# Altium schematic symbol library ICs.SchLib: 214 symbols (part 1 of 2)
Pins are listed as number, name and electrical type; pins without a type are passive.

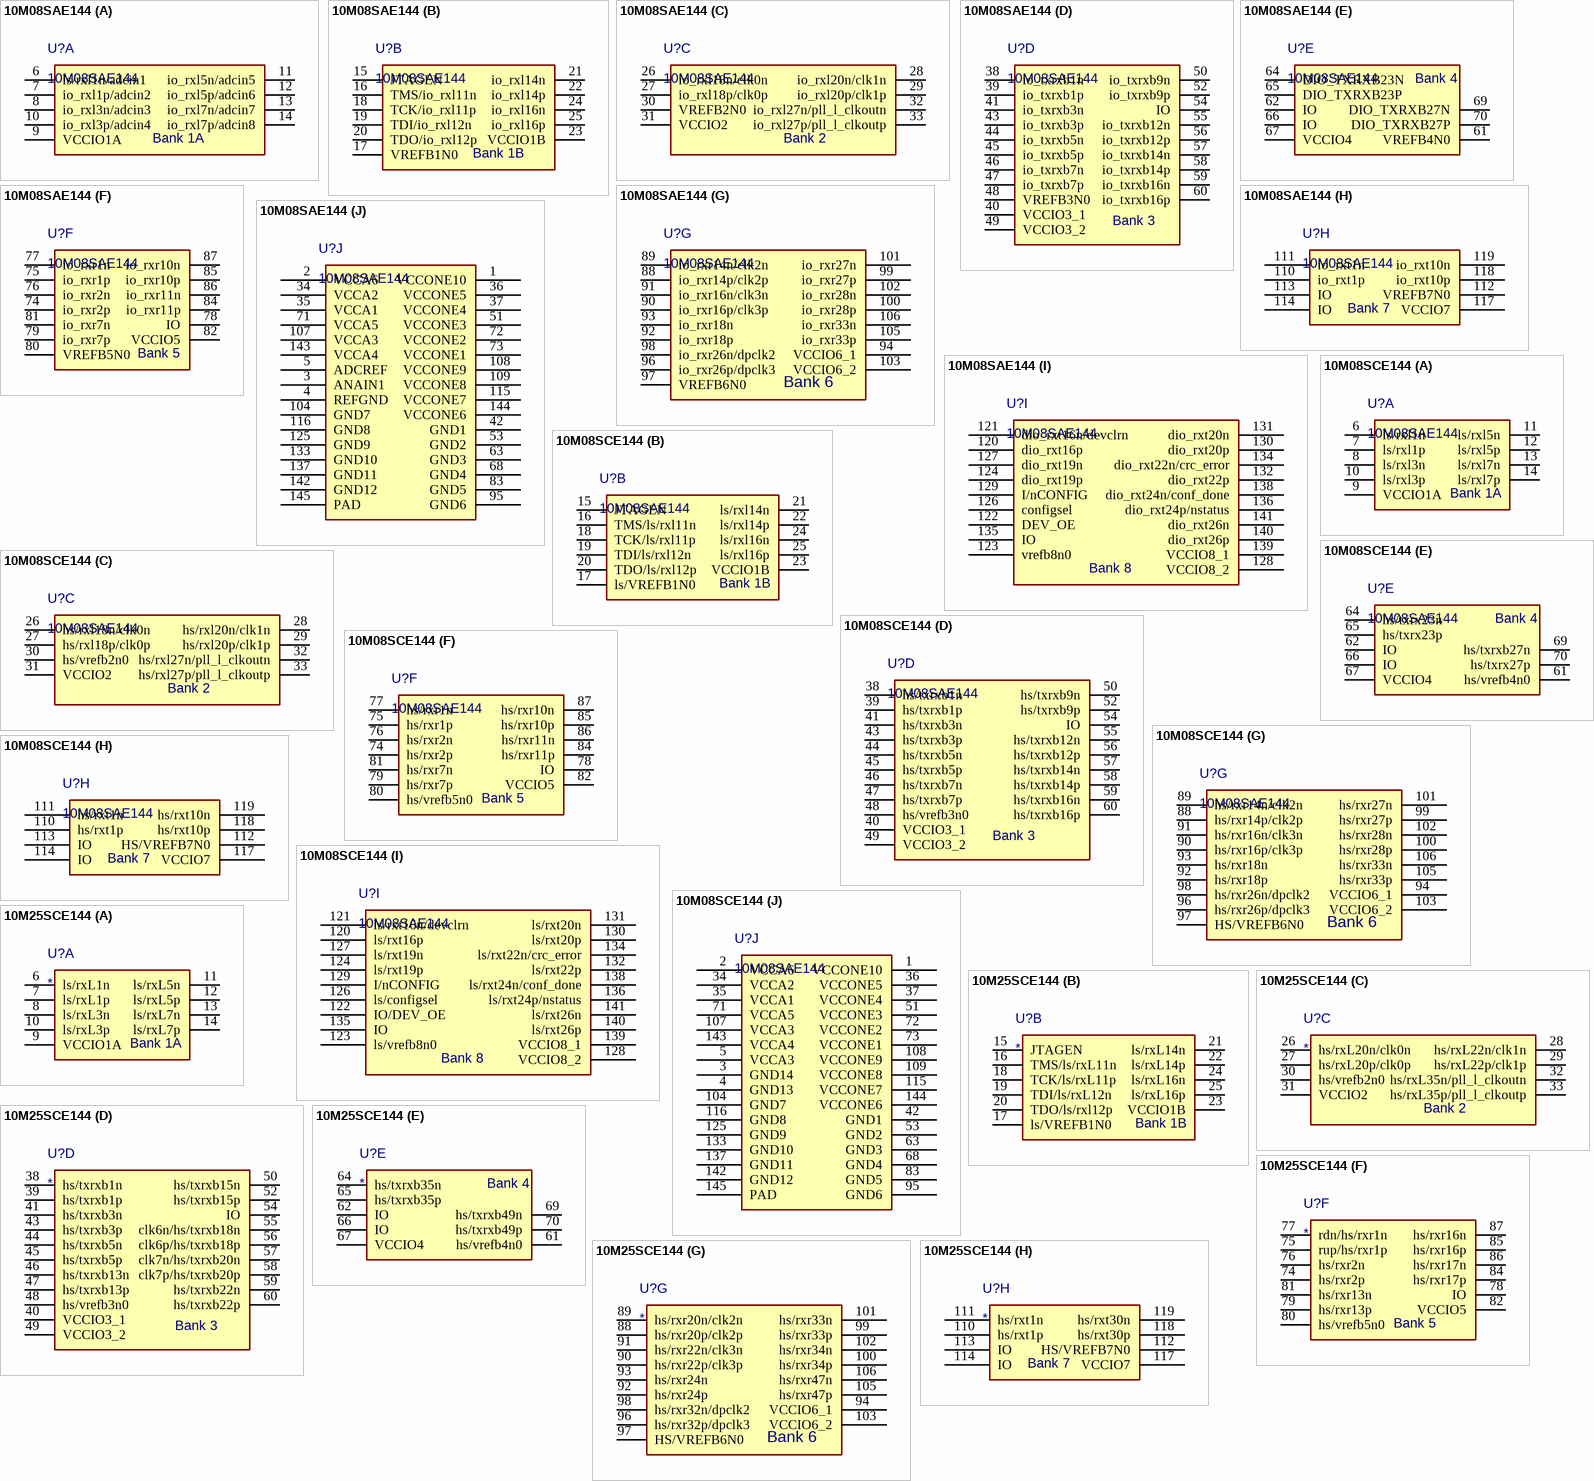
[diagram p0: symbols 10M08SAE144 to 10M25SCE144]

## 10M08SAE144
designator U?
Value: 10M08SAE144
part A pins: 6 ls/rxl1n/adcin1, 7 io_rxl1p/adcin2, 8 io_rxl3n/adcin3, 9 VCCIO1A, 10 io_rxl3p/adcin4, 11 io_rxl5n/adcin5, 12 io_rxl5p/adcin6, 13 io_rxl7n/adcin7, 14 io_rxl7p/adcin8
part B pins: 15 JTAGEN, 16 TMS/io_rxl11n, 17 VREFB1N0, 18 TCK/io_rxl11p, 19 TDI/io_rxl12n, 20 TDO/io_rxl12p, 21 io_rxl14n, 22 io_rxl14p, 23 VCCIO1B, 24 io_rxl16n, 25 io_rxl16p
part C pins: 26 io_rxl18n/clk0n, 27 io_rxl18p/clk0p, 28 io_rxl20n/clk1n, 29 io_rxl20p/clk1p, 30 VREFB2N0, 31 VCCIO2, 32 io_rxl27n/pll_l_clkoutn, 33 io_rxl27p/pll_l_clkoutp
part D pins: 38 io_txrxb1n, 39 io_txrxb1p, 40 VCCIO3_1, 41 io_txrxb3n, 43 io_txrxb3p, 44 io_txrxb5n, 45 io_txrxb5p, 46 io_txrxb7n, 47 io_txrxb7p, 48 VREFB3N0, 49 VCCIO3_2, 50 io_txrxb9n, 52 io_txrxb9p, 54 IO, 55 io_txrxb12n, 56 io_txrxb12p, 57 io_txrxb14n, 58 io_txrxb14p, 59 io_txrxb16n, 60 io_txrxb16p
part E pins: 61 VREFB4N0, 62 IO, 64 DIO_TXRXB23N, 65 DIO_TXRXB23P, 66 IO, 67 VCCIO4, 69 DIO_TXRXB27N, 70 DIO_TXRXB27P
part F pins: 74 io_rxr2p, 75 io_rxr1p, 76 io_rxr2n, 77 io_rxr1n, 78 IO, 79 io_rxr7p, 80 VREFB5N0, 81 io_rxr7n, 82 VCCIO5, 84 io_rxr11p, 85 io_rxr10p, 86 io_rxr11n, 87 io_rxr10n
part G pins: 88 io_rxr14p/clk2p, 89 io_rxr14n/clk2n, 90 io_rxr16p/clk3p, 91 io_rxr16n/clk3n, 92 io_rxr18p, 93 io_rxr18n, 94 VCCIO6_1, 96 io_rxr26p/dpclk3, 97 VREFB6N0, 98 io_rxr26n/dpclk2, 99 io_rxr27p, 100 io_rxr28p, 101 io_rxr27n, 102 io_rxr28n, 103 VCCIO6_2, 105 io_rxr33p, 106 io_rxr33n
part H pins: 110 io_rxt1p, 111 io_rxt1n, 112 VREFB7N0, 113 IO, 114 IO, 117 VCCIO7, 118 io_rxt10p, 119 io_rxt10n
part I pins: 120 dio_rxt16p, 121 dio_rxt16n/devclrn, 122 DEV_OE, 123 vrefb8n0, 124 dio_rxt19p, 126 configsel, 127 dio_rxt19n, 128 VCCIO8_2, 129 I/nCONFIG, 130 dio_rxt20p, 131 dio_rxt20n, 132 dio_rxt22p, 134 dio_rxt22n/crc_error, 135 IO, 136 dio_rxt24p/nstatus, 138 dio_rxt24n/conf_done, 139 VCCIO8_1, 140 dio_rxt26p, 141 dio_rxt26n
part J pins: 1 VCCONE10, 2 VCCA6, 3 ANAIN1, 4 REFGND, 5 ADCREF, 34 VCCA2, 35 VCCA1, 36 VCCONE5, 37 VCCONE4, 42 GND1, 51 VCCONE3, 53 GND2, 63 GND3, 68 GND4, 71 VCCA5, 72 VCCONE2, 73 VCCONE1, 83 GND5, 95 GND6, 104 GND7, 107 VCCA3, 108 VCCONE9, 109 VCCONE8, 115 VCCONE7, 116 GND8, 125 GND9, 133 GND10, 137 GND11, 142 GND12, 143 VCCA4, 144 VCCONE6, 145 PAD
part A text: Bank 1A
part B text: Bank 1B
part C text: Bank 2
part D text: Bank 3
part E text: Bank 4
part F text: Bank 5
part G text: Bank 6
part H text: Bank 7
part I text: Bank 8

## 10M08SCE144
designator U?, comment 10M08SAE144
Value: 10M08SAE144
part A pins: 6 ls/rxl1n, 7 ls/rxl1p, 8 ls/rxl3n, 9 VCCIO1A, 10 ls/rxl3p, 11 ls/rxl5n, 12 ls/rxl5p, 13 ls/rxl7n, 14 ls/rxl7p
part B pins: 15 JTAGEN, 16 TMS/ls/rxl11n, 17 ls/VREFB1N0, 18 TCK/ls/rxl11p, 19 TDI/ls/rxl12n, 20 TDO/ls/rxl12p, 21 ls/rxl14n, 22 ls/rxl14p, 23 VCCIO1B, 24 ls/rxl16n, 25 ls/rxl16p
part C pins: 26 hs/rxl18n/clk0n, 27 hs/rxl18p/clk0p, 28 hs/rxl20n/clk1n, 29 hs/rxl20p/clk1p, 30 hs/vrefb2n0, 31 VCCIO2, 32 hs/rxl27n/pll_l_clkoutn, 33 hs/rxl27p/pll_l_clkoutp
part D pins: 38 hs/txrxb1n, 39 hs/txrxb1p, 40 VCCIO3_1, 41 hs/txrxb3n, 43 hs/txrxb3p, 44 hs/txrxb5n, 45 hs/txrxb5p, 46 hs/txrxb7n, 47 hs/txrxb7p, 48 hs/vrefb3n0, 49 VCCIO3_2, 50 hs/txrxb9n, 52 hs/txrxb9p, 54 IO, 55 hs/txrxb12n, 56 hs/txrxb12p, 57 hs/txrxb14n, 58 hs/txrxb14p, 59 hs/txrxb16n, 60 hs/txrxb16p
part E pins: 61 hs/vrefb4n0, 62 IO, 64 hs/txrx23n, 65 hs/txrx23p, 66 IO, 67 VCCIO4, 69 hs/txrxb27n, 70 hs/txrx27p
part F pins: 74 hs/rxr2p, 75 hs/rxr1p, 76 hs/rxr2n, 77 hs/rxr1n, 78 IO, 79 hs/rxr7p, 80 hs/vrefb5n0, 81 hs/rxr7n, 82 VCCIO5, 84 hs/rxr11p, 85 hs/rxr10p, 86 hs/rxr11n, 87 hs/rxr10n
part G pins: 88 hs/rxr14p/clk2p, 89 hs/rxr14n/clk2n, 90 hs/rxr16p/clk3p, 91 hs/rxr16n/clk3n, 92 hs/rxr18p, 93 hs/rxr18n, 94 VCCIO6_1, 96 hs/rxr26p/dpclk3, 97 HS/VREFB6N0, 98 hs/rxr26n/dpclk2, 99 hs/rxr27p, 100 hs/rxr28p, 101 hs/rxr27n, 102 hs/rxr28n, 103 VCCIO6_2, 105 hs/rxr33p, 106 hs/rxr33n
part H pins: 110 hs/rxt1p, 111 hs/rxt1n, 112 HS/VREFB7N0, 113 IO, 114 IO, 117 VCCIO7, 118 hs/rxt10p, 119 hs/rxt10n
part I pins: 120 ls/rxt16p, 121 ls/rxt16n/devclrn, 122 IO/DEV_OE, 123 ls/vrefb8n0, 124 ls/rxt19p, 126 ls/configsel, 127 ls/rxt19n, 128 VCCIO8_2, 129 I/nCONFIG, 130 ls/rxt20p, 131 ls/rxt20n, 132 ls/rxt22p, 134 ls/rxt22n/crc_error, 135 IO, 136 ls/rxt24p/nstatus, 138 ls/rxt24n/conf_done, 139 VCCIO8_1, 140 ls/rxt26p, 141 ls/rxt26n
part J pins: 1 VCCONE10, 2 VCCA6, 3 GND14, 4 GND13, 5 VCCA3, 34 VCCA2, 35 VCCA1, 36 VCCONE5, 37 VCCONE4, 42 GND1, 51 VCCONE3, 53 GND2, 63 GND3, 68 GND4, 71 VCCA5, 72 VCCONE2, 73 VCCONE1, 83 GND5, 95 GND6, 104 GND7, 107 VCCA3, 108 VCCONE9, 109 VCCONE8, 115 VCCONE7, 116 GND8, 125 GND9, 133 GND10, 137 GND11, 142 GND12, 143 VCCA4, 144 VCCONE6, 145 PAD
part A text: Bank 1A
part B text: Bank 1B
part C text: Bank 2
part D text: Bank 3
part E text: Bank 4
part F text: Bank 5
part G text: Bank 6
part H text: Bank 7
part I text: Bank 8

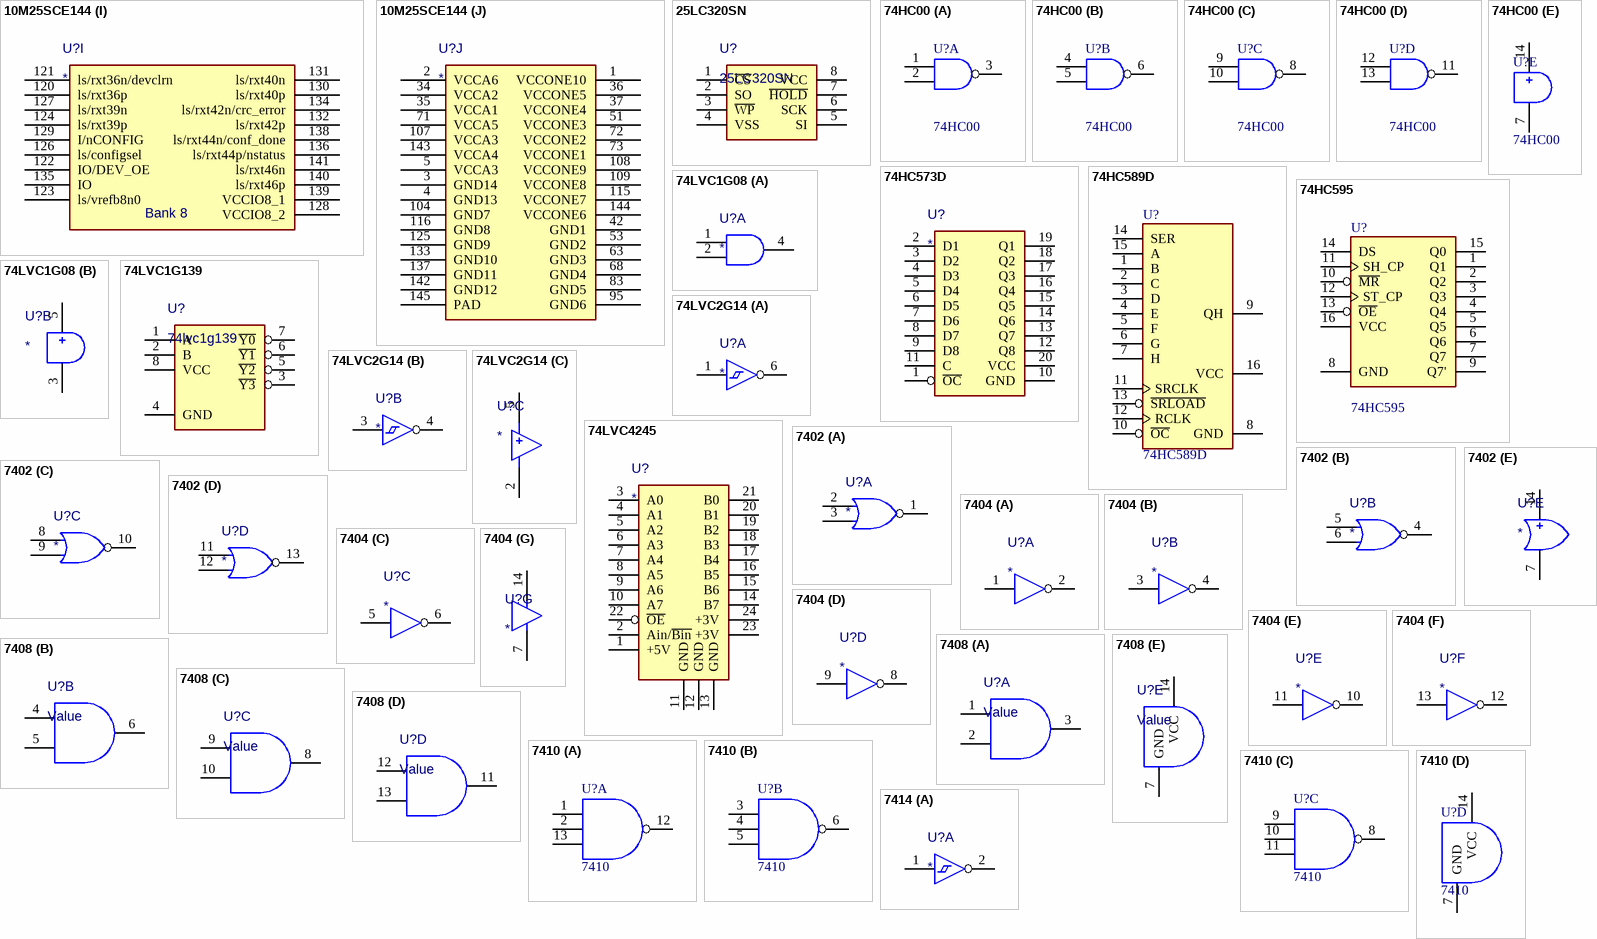
[diagram p1: symbols 10M25SCE144 to 7414]

## 10M25SCE144
designator U?
Value: *
part A pins: 6 ls/rxL1n, 7 ls/rxL1p, 8 ls/rxL3n, 9 VCCIO1A, 10 ls/rxL3p, 11 ls/rxL5n, 12 ls/rxL5p, 13 ls/rxL7n, 14 ls/rxL7p
part B pins: 15 JTAGEN, 16 TMS/ls/rxL11n, 17 ls/VREFB1N0, 18 TCK/ls/rxL11p, 19 TDI/ls/rxL12n, 20 TDO/ls/rxl12p, 21 ls/rxL14n, 22 ls/rxL14p, 23 VCCIO1B, 24 ls/rxL16n, 25 ls/rxL16p
part C pins: 26 hs/rxL20n/clk0n, 27 hs/rxL20p/clk0p, 28 hs/rxL22n/clk1n, 29 hs/rxL22p/clk1p, 30 hs/vrefb2n0, 31 VCCIO2, 32 hs/rxL35n/pll_l_clkoutn, 33 hs/rxL35p/pll_l_clkoutp
part D pins: 38 hs/txrxb1n, 39 hs/txrxb1p, 40 VCCIO3_1, 41 hs/txrxb3n, 43 hs/txrxb3p, 44 hs/txrxb5n, 45 hs/txrxb5p, 46 hs/txrxb13n, 47 hs/txrxb13p, 48 hs/vrefb3n0, 49 VCCIO3_2, 50 hs/txrxb15n, 52 hs/txrxb15p, 54 IO, 55 clk6n/hs/txrxb18n, 56 clk6p/hs/txrxb18p, 57 clk7n/hs/txrxb20n, 58 clk7p/hs/txrxb20p, 59 hs/txrxb22n, 60 hs/txrxb22p
part E pins: 61 hs/vrefb4n0, 62 IO, 64 hs/txrxb35n, 65 hs/txrxb35p, 66 IO, 67 VCCIO4, 69 hs/txrxb49n, 70 hs/txrxb49p
part F pins: 74 hs/rxr2p, 75 rup/hs/rxr1p, 76 hs/rxr2n, 77 rdn/hs/rxr1n, 78 IO, 79 hs/rxr13p, 80 hs/vrefb5n0, 81 hs/rxr13n, 82 VCCIO5, 84 hs/rxr17p, 85 hs/rxr16p, 86 hs/rxr17n, 87 hs/rxr16n
part G pins: 88 hs/rxr20p/clk2p, 89 hs/rxr20n/clk2n, 90 hs/rxr22p/clk3p, 91 hs/rxr22n/clk3n, 92 hs/rxr24p, 93 hs/rxr24n, 94 VCCIO6_1, 96 hs/rxr32p/dpclk3, 97 HS/VREFB6N0, 98 hs/rxr32n/dpclk2, 99 hs/rxr33p, 100 hs/rxr34p, 101 hs/rxr33n, 102 hs/rxr34n, 103 VCCIO6_2, 105 hs/rxr47p, 106 hs/rxr47n
part H pins: 110 hs/rxt1p, 111 hs/rxt1n, 112 HS/VREFB7N0, 113 IO, 114 IO, 117 VCCIO7, 118 hs/rxt30p, 119 hs/rxt30n
part I pins: 120 ls/rxt36p, 121 ls/rxt36n/devclrn, 122 IO/DEV_OE, 123 ls/vrefb8n0, 124 ls/rxt39p, 126 ls/configsel, 127 ls/rxt39n, 128 VCCIO8_2, 129 I/nCONFIG, 130 ls/rxt40p, 131 ls/rxt40n, 132 ls/rxt42p, 134 ls/rxt42n/crc_error, 135 IO, 136 ls/rxt44p/nstatus, 138 ls/rxt44n/conf_done, 139 VCCIO8_1, 140 ls/rxt46p, 141 ls/rxt46n
part J pins: 1 VCCONE10, 2 VCCA6, 3 GND14, 4 GND13, 5 VCCA3, 34 VCCA2, 35 VCCA1, 36 VCCONE5, 37 VCCONE4, 42 GND1, 51 VCCONE3, 53 GND2, 63 GND3, 68 GND4, 71 VCCA5, 72 VCCONE2, 73 VCCONE1, 83 GND5, 95 GND6, 104 GND7, 107 VCCA3, 108 VCCONE9, 109 VCCONE8, 115 VCCONE7, 116 GND8, 125 GND9, 133 GND10, 137 GND11, 142 GND12, 143 VCCA4, 144 VCCONE6, 145 PAD
part A text: Bank 1A
part B text: Bank 1B
part C text: Bank 2
part D text: Bank 3
part E text: Bank 4
part F text: Bank 5
part G text: Bank 6
part H text: Bank 7
part I text: Bank 8

## 25LC320SN
designator U?
Value: 25LC320SN
pins: 1 ~{CS}, 2 SO, 3 ~{WP}, 4 VSS, 5 SI, 6 SCK, 7 ~{HOLD}, 8 VCC

## 74HC00
designator U?
Value: 74HC00
part A pins: 1 I0, 2 I1, 3 O
part B pins: 4 I0, 5 I1, 6 O
part C pins: 8 O, 9 I0, 10 I1
part D pins: 11 O, 12 I0, 13 I1
part E pins: 7 GND, 14 VCC

## 74HC573D
designator U?
Value: *
pins: 1 ~{OC}, 2 D1, 3 D2, 4 D3, 5 D4, 6 D5, 7 D6, 8 D7, 9 D8, 10 GND, 11 C, 12 Q8 (hiz), 13 Q7 (hiz), 14 Q6 (hiz), 15 Q5 (hiz), 16 Q4 (hiz), 17 Q3 (hiz), 18 Q2 (hiz), 19 Q1 (hiz), 20 VCC

## 74HC589D
designator U?
Value: 74HC589D
footprint 16SOIC150
pins: 1 B, 2 C, 3 D, 4 E, 5 F, 6 G, 7 H, 8 GND, 9 QH, 10 ~{OC}, 11 SRCLK, 12 RCLK, 13 ~{SRLOAD}, 14 SER, 15 A, 16 VCC

## 74HC595
designator U?
Value: 74HC595
pins: 1 Q1 (hiz), 2 Q2 (hiz), 3 Q3 (hiz), 4 Q4 (hiz), 5 Q5 (hiz), 6 Q6 (hiz), 7 Q7 (hiz), 8 GND, 9 Q7', 10 ~{MR}, 11 SH_CP, 12 ST_CP, 13 ~{OE}, 14 DS, 15 Q0 (hiz), 16 VCC

## 74LVC1G08
designator U?
Value: *
part A pins: 1 I0, 2 I1, 4 O
part B pins: 3 GND, 5 VCC

## 74LVC1G139
designator U?, comment 74lvc1g139
Value: 74lvc1g139
pins: 1 A, 2 B, 3 ~{Y3}, 4 GND, 5 ~{Y2}, 6 ~{Y1}, 7 ~{Y0}, 8 VCC

## 74LVC2G14
designator U?
Value: *
part A pins: 1 I, 6 O
part B pins: 3 I, 4 O
part C pins: 2 GND, 5 VCC

## 74LVC4245
designator U?
Value: *
pins: 1 +5V (power), 2 Ain/~{Bin}, 3 A0, 4 A1, 5 A2, 6 A3, 7 A4, 8 A5, 9 A6, 10 A7, 11 GND (power), 12 GND (power), 13 GND (power), 14 B7, 15 B6, 16 B5, 17 B4, 18 B3, 19 B2, 20 B1, 21 B0, 22 ~{OE}, 23 +3V, 24 +3V

## 7402
designator U?
Value: *
part A pins: 1 O, 2 I0, 3 I1
part B pins: 4 O, 5 I0, 6 I1
part C pins: 8 I0, 9 I1, 10 O
part D pins: 11 I0, 12 I1, 13 O
part E pins: 7 GND, 14 VCC

## 7404
designator U?
Value: *
part A pins: 1 I, 2 O
part B pins: 3 I, 4 O
part C pins: 5 I, 6 O
part D pins: 8 O, 9 I
part E pins: 10 O, 11 I
part F pins: 12 O, 13 I
part G pins: 7 GND, 14 VCC

## 7408
designator U?, comment Value
Value: Value
part A pins: 1 I0, 2 I1, 3 O
part B pins: 4 I0, 5 I1, 6 O
part C pins: 8 O, 9 I0, 10 I1
part D pins: 11 O, 12 I0, 13 I1
part E pins: 7 GND, 14 VCC

## 7410
designator U?
Value: 7410
part A pins: 1 I0, 2 I1, 12 O, 13 I2
part B pins: 3 I0, 4 I1, 5 I2, 6 O
part C pins: 8 O, 9 I0, 10 I1, 11 I2
part D pins: 7 GND, 14 VCC
1 alternate drawing of the same symbol

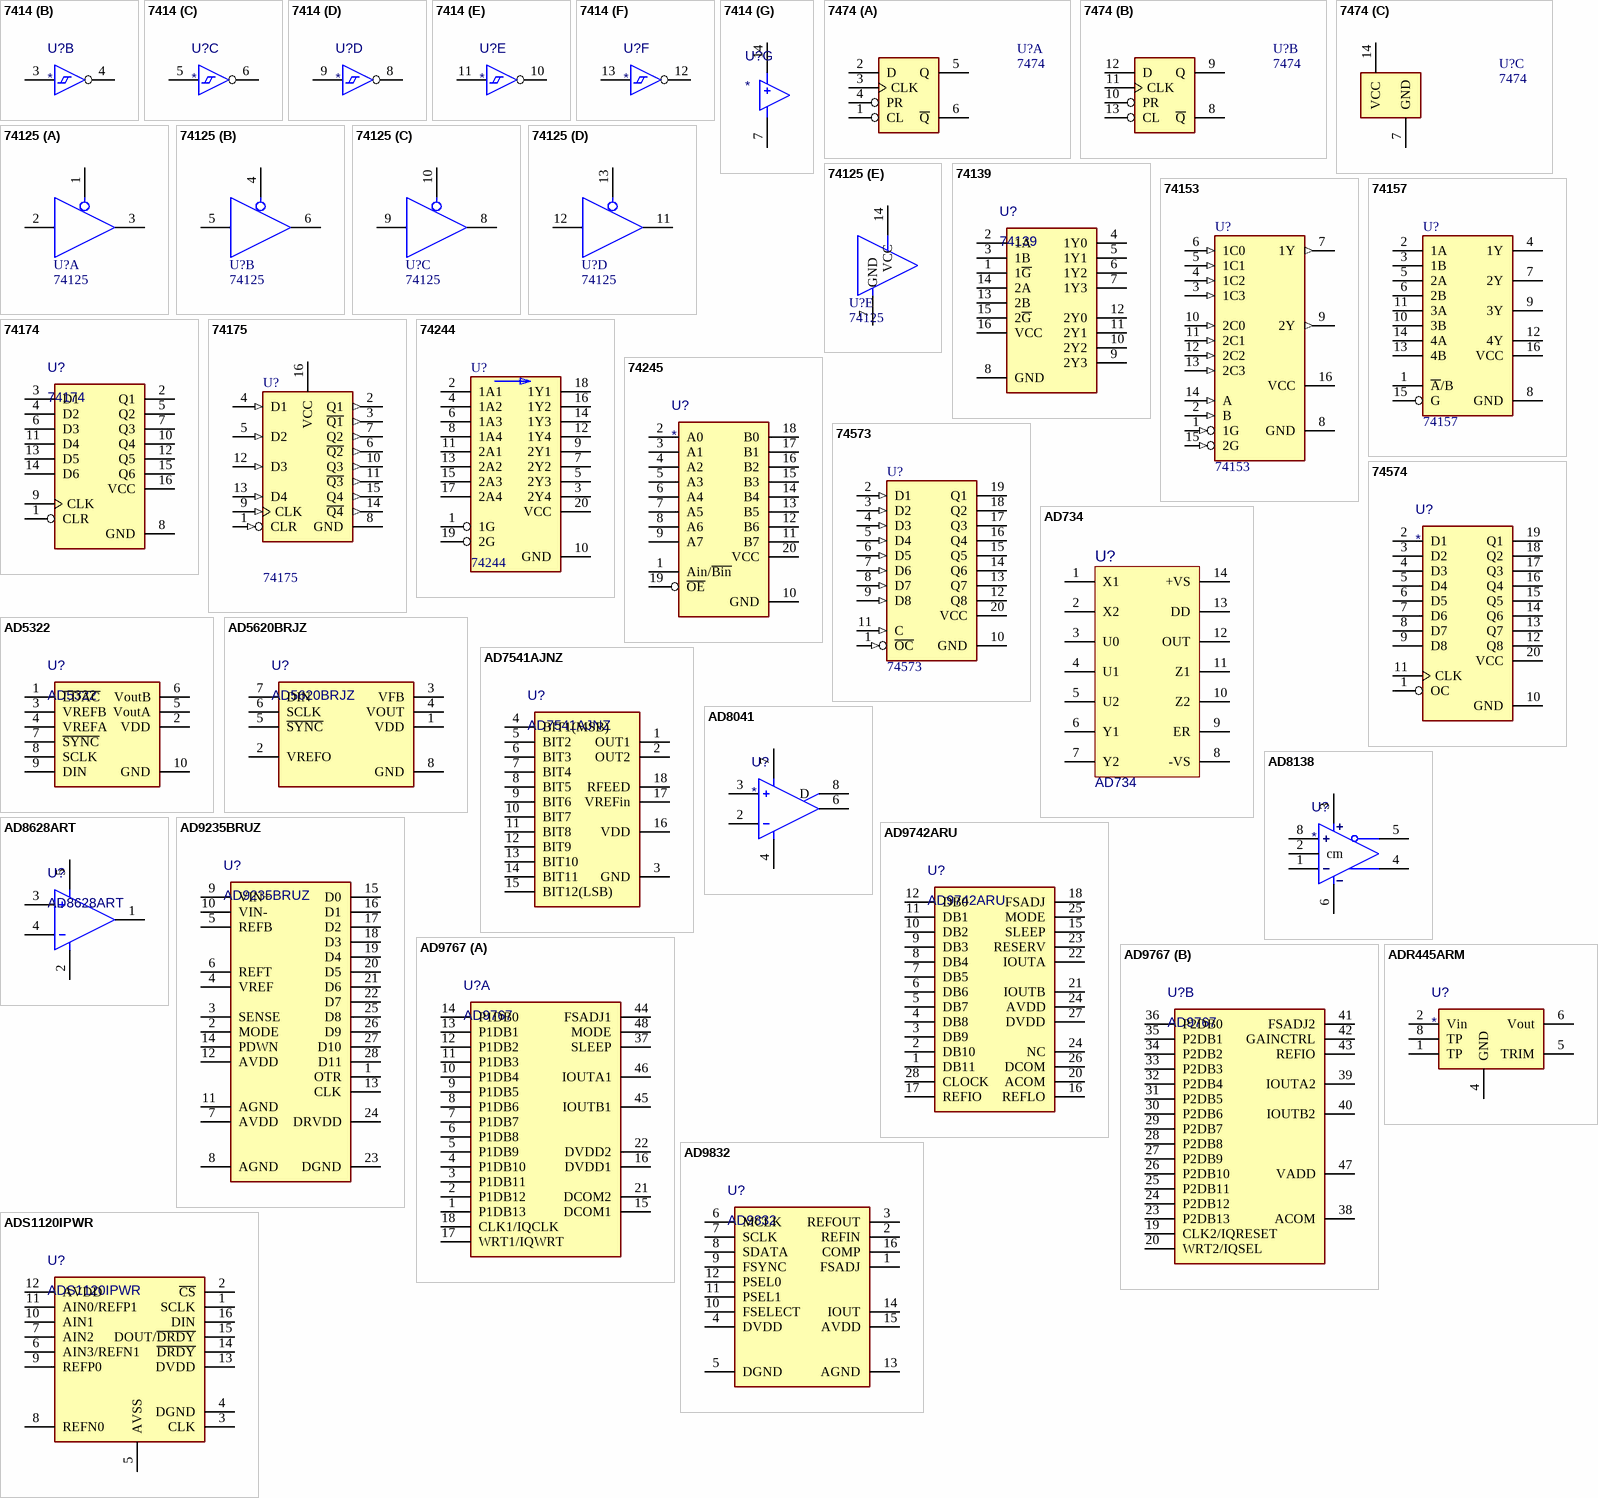
[diagram p2: symbols 7414 to ADS1120IPWR]

## 7414
designator U?
Value: *
part A pins: 1 I, 2 O
part B pins: 3 I, 4 O
part C pins: 5 I, 6 O
part D pins: 8 O, 9 I
part E pins: 10 O, 11 I
part F pins: 12 O, 13 I
part G pins: 7 GND, 14 VCC

## 7474
designator U?
Value: 7474
part A pins: 1 CL, 2 D, 3 CLK, 4 PR, 5 Q, 6 ~{Q}
part B pins: 8 ~{Q}, 9 Q, 10 PR, 11 CLK, 12 D, 13 CL
part C pins: 7 GND, 14 VCC

## 74125
designator U?
Value: 74125
part A pins: 1 OE, 2 I, 3 O
part B pins: 4 OE, 5 I, 6 O
part C pins: 8 O, 9 I, 10 OE
part D pins: 11 O, 12 I, 13 OE
part E pins: 7 GND, 14 VCC
1 alternate drawing of the same symbol

## 74139
designator U?
Value: 74139
pins: 1 1~{G}, 2 1A, 3 1B, 4 1Y0, 5 1Y1, 6 1Y2, 7 1Y3, 8 GND, 9 2Y3, 10 2Y2, 11 2Y1, 12 2Y0, 13 2B, 14 2A, 15 2~{G}, 16 VCC

## 74153
designator U?
Value: 74153
pins: 1 1G (in), 2 B (in), 3 1C3 (in), 4 1C2 (in), 5 1C1 (in), 6 1C0 (in), 7 1Y (out), 8 GND (power), 9 2Y (out), 10 2C0 (in), 11 2C1 (in), 12 2C2 (in), 13 2C3 (in), 14 A (in), 15 2G (in), 16 VCC (power)

## 74157
designator U?
Value: 74157
pins: 1 ~{A}/B, 2 1A, 3 1B, 4 1Y, 5 2A, 6 2B, 7 2Y, 8 GND, 9 3Y, 10 3B, 11 3A, 12 4Y, 13 4B, 14 4A, 15 G, 16 VCC

## 74174
designator U?
Value: 74174
pins: 1 CLR, 2 Q1, 3 D1, 4 D2, 5 Q2, 6 D3, 7 Q3, 8 GND, 9 CLK, 10 Q4, 11 D4, 12 Q5, 13 D5, 14 D6, 15 Q6, 16 VCC

## 74175
designator U?
Value: 74175
pins: 1 CLR (in), 2 Q1 (out), 3 ~{Q1} (out), 4 D1 (in), 5 D2 (in), 6 ~{Q2} (out), 7 Q2 (out), 8 GND, 9 CLK (in), 10 Q3 (out), 11 ~{Q3} (out), 12 D3 (in), 13 D4 (in), 14 ~{Q4} (out), 15 Q4 (out), 16 VCC (power)

## 74244
designator U?
Value: 74244
pins: 1 1G, 2 1A1, 3 2Y4, 4 1A2, 5 2Y3, 6 1A3, 7 2Y2, 8 1A4, 9 2Y1, 10 GND, 11 2A1, 12 1Y4, 13 2A2, 14 1Y3, 15 2A3, 16 1Y2, 17 2A4, 18 1Y1, 19 2G, 20 VCC

## 74245
designator U?
Value: *
pins: 1 Ain/~{Bin}, 2 A0, 3 A1, 4 A2, 5 A3, 6 A4, 7 A5, 8 A6, 9 A7, 10 GND (power), 11 B7, 12 B6, 13 B5, 14 B4, 15 B3, 16 B2, 17 B1, 18 B0, 19 ~{OE}, 20 VCC (power)

## 74573
designator U?
Value: 74573
pins: 1 ~{OC} (in), 2 D1 (in), 3 D2 (in), 4 D3 (in), 5 D4 (in), 6 D5 (in), 7 D6 (in), 8 D7 (in), 9 D8 (in), 10 GND (power), 11 C (in), 12 Q8 (hiz), 13 Q7 (hiz), 14 Q6 (hiz), 15 Q5 (hiz), 16 Q4 (hiz), 17 Q3 (hiz), 18 Q2 (hiz), 19 Q1 (hiz), 20 VCC (power)

## 74574
designator U?
Value: *
pins: 1 OC, 2 D1, 3 D2, 4 D3, 5 D4, 6 D5, 7 D6, 8 D7, 9 D8, 10 GND, 11 CLK, 12 Q8, 13 Q7, 14 Q6, 15 Q5, 16 Q4, 17 Q3, 18 Q2, 19 Q1, 20 VCC

## AD734
designator U?
Value: AD734
pins: 1 X1, 2 X2, 3 U0, 4 U1, 5 U2, 6 Y1, 7 Y2, 8 -VS, 9 ER, 10 Z2, 11 Z1, 12 OUT, 13 DD, 14 +VS

## AD5322
designator U?
Value: AD5322
pins: 1 ~{LDAC}, 2 VDD, 3 VREFB, 4 VREFA, 5 VoutA, 6 VoutB, 7 ~{SYNC}, 8 SCLK, 9 DIN, 10 GND

## AD5620BRJZ
designator U?
Value: AD5620BRJZ
pins: 1 VDD, 2 VREFO, 3 VFB, 4 VOUT, 5 ~{SYNC}, 6 SCLK, 7 DIN, 8 GND

## AD7541AJNZ
designator U?
Value: AD7541AJNZ
pins: 1 OUT1, 2 OUT2, 3 GND, 4 BIT1(MSB), 5 BIT2, 6 BIT3, 7 BIT4, 8 BIT5, 9 BIT6, 10 BIT7, 11 BIT8, 12 BIT9, 13 BIT10, 14 BIT11, 15 BIT12(LSB), 16 VDD, 17 VREFin, 18 RFEED

## AD8041
designator U?
Value: *
pins: 2 MINUS INPUT, 3 PLUS INPUT, 4 MINUS V, 6 OUTPUT, 7 PLUS V, 8 D

## AD8138
designator U?
Value: *
pins: 1 MINUS INPUT, 2 cm, 3 PLUS V, 4 OUTPUT, 5 DISABLE, 6 MINUS V, 8 PLUS INPUT

## AD8628ART
designator U?
Value: AD8628ART
pins: 1 OUTPUT, 2 MINUS V, 3 PLUS INPUT, 4 MINUS INPUT, 5 PLUS V

## AD9235BRUZ
designator U?
Value: AD9235BRUZ
pins: 1 OTR, 2 MODE, 3 SENSE, 4 VREF, 5 REFB, 6 REFT, 7 AVDD, 8 AGND, 9 VIN+, 10 VIN-, 11 AGND, 12 AVDD, 13 CLK, 14 PDWN, 15 D0, 16 D1, 17 D2, 18 D3, 19 D4, 20 D5, 21 D6, 22 D7, 23 DGND, 24 DRVDD, 25 D8, 26 D9, 27 D10, 28 D11

## AD9742ARU
designator U?
Value: AD9742ARU
pins: 1 DB11, 2 DB10, 3 DB9, 4 DB8, 5 DB7, 6 DB6, 7 DB5, 8 DB4, 9 DB3, 10 DB2, 11 DB1, 12 DB0, 15 SLEEP, 16 REFLO, 17 REFIO, 18 FSADJ, 20 ACOM, 21 IOUTB, 22 IOUTA, 23 RESERV, 24 AVDD, 24 NC, 25 MODE, 26 DCOM, 27 DVDD, 28 CLOCK

## AD9767
designator U?
Value: AD9767
part A pins: 1 P1DB13, 2 P1DB12, 3 P1DB11, 4 P1DB10, 5 P1DB9, 6 P1DB8, 7 P1DB7, 8 P1DB6, 9 P1DB5, 10 P1DB4, 11 P1DB3, 12 P1DB2, 13 P1DB1, 14 P1DB0, 15 DCOM1, 16 DVDD1, 17 WRT1/IQWRT, 18 CLK1/IQCLK, 21 DCOM2, 22 DVDD2, 37 SLEEP, 44 FSADJ1, 45 IOUTB1, 46 IOUTA1, 48 MODE
part B pins: 19 CLK2/IQRESET, 20 WRT2/IQSEL, 23 P2DB13, 24 P2DB12, 25 P2DB11, 26 P2DB10, 27 P2DB9, 28 P2DB8, 29 P2DB7, 30 P2DB6, 31 P2DB5, 32 P2DB4, 33 P2DB3, 34 P2DB2, 35 P2DB1, 36 P2DB0, 38 ACOM, 39 IOUTA2, 40 IOUTB2, 41 FSADJ2, 42 GAINCTRL, 43 REFIO, 47 VADD

## AD9832
designator U?
Value: AD9832
pins: 1 FSADJ, 2 REFIN, 3 REFOUT, 4 DVDD, 5 DGND, 6 MCLK, 7 SCLK, 8 SDATA, 9 FSYNC, 10 FSELECT, 11 PSEL1, 12 PSEL0, 13 AGND, 14 IOUT, 15 AVDD, 16 COMP

## ADR445ARM
designator U?
Value: *
pins: 1 TP, 2 Vin, 4 GND, 5 TRIM, 6 Vout, 8 TP

## ADS1120IPWR
designator U?
Value: ADS1120IPWR
pins: 1 SCLK, 2 ~{CS}, 3 CLK, 4 DGND, 5 AVSS, 6 AIN3/REFN1, 7 AIN2, 8 REFN0, 9 REFP0, 10 AIN1, 11 AIN0/REFP1, 12 AVDD, 13 DVDD, 14 ~{DRDY}, 15 DOUT/~{DRDY}, 16 DIN

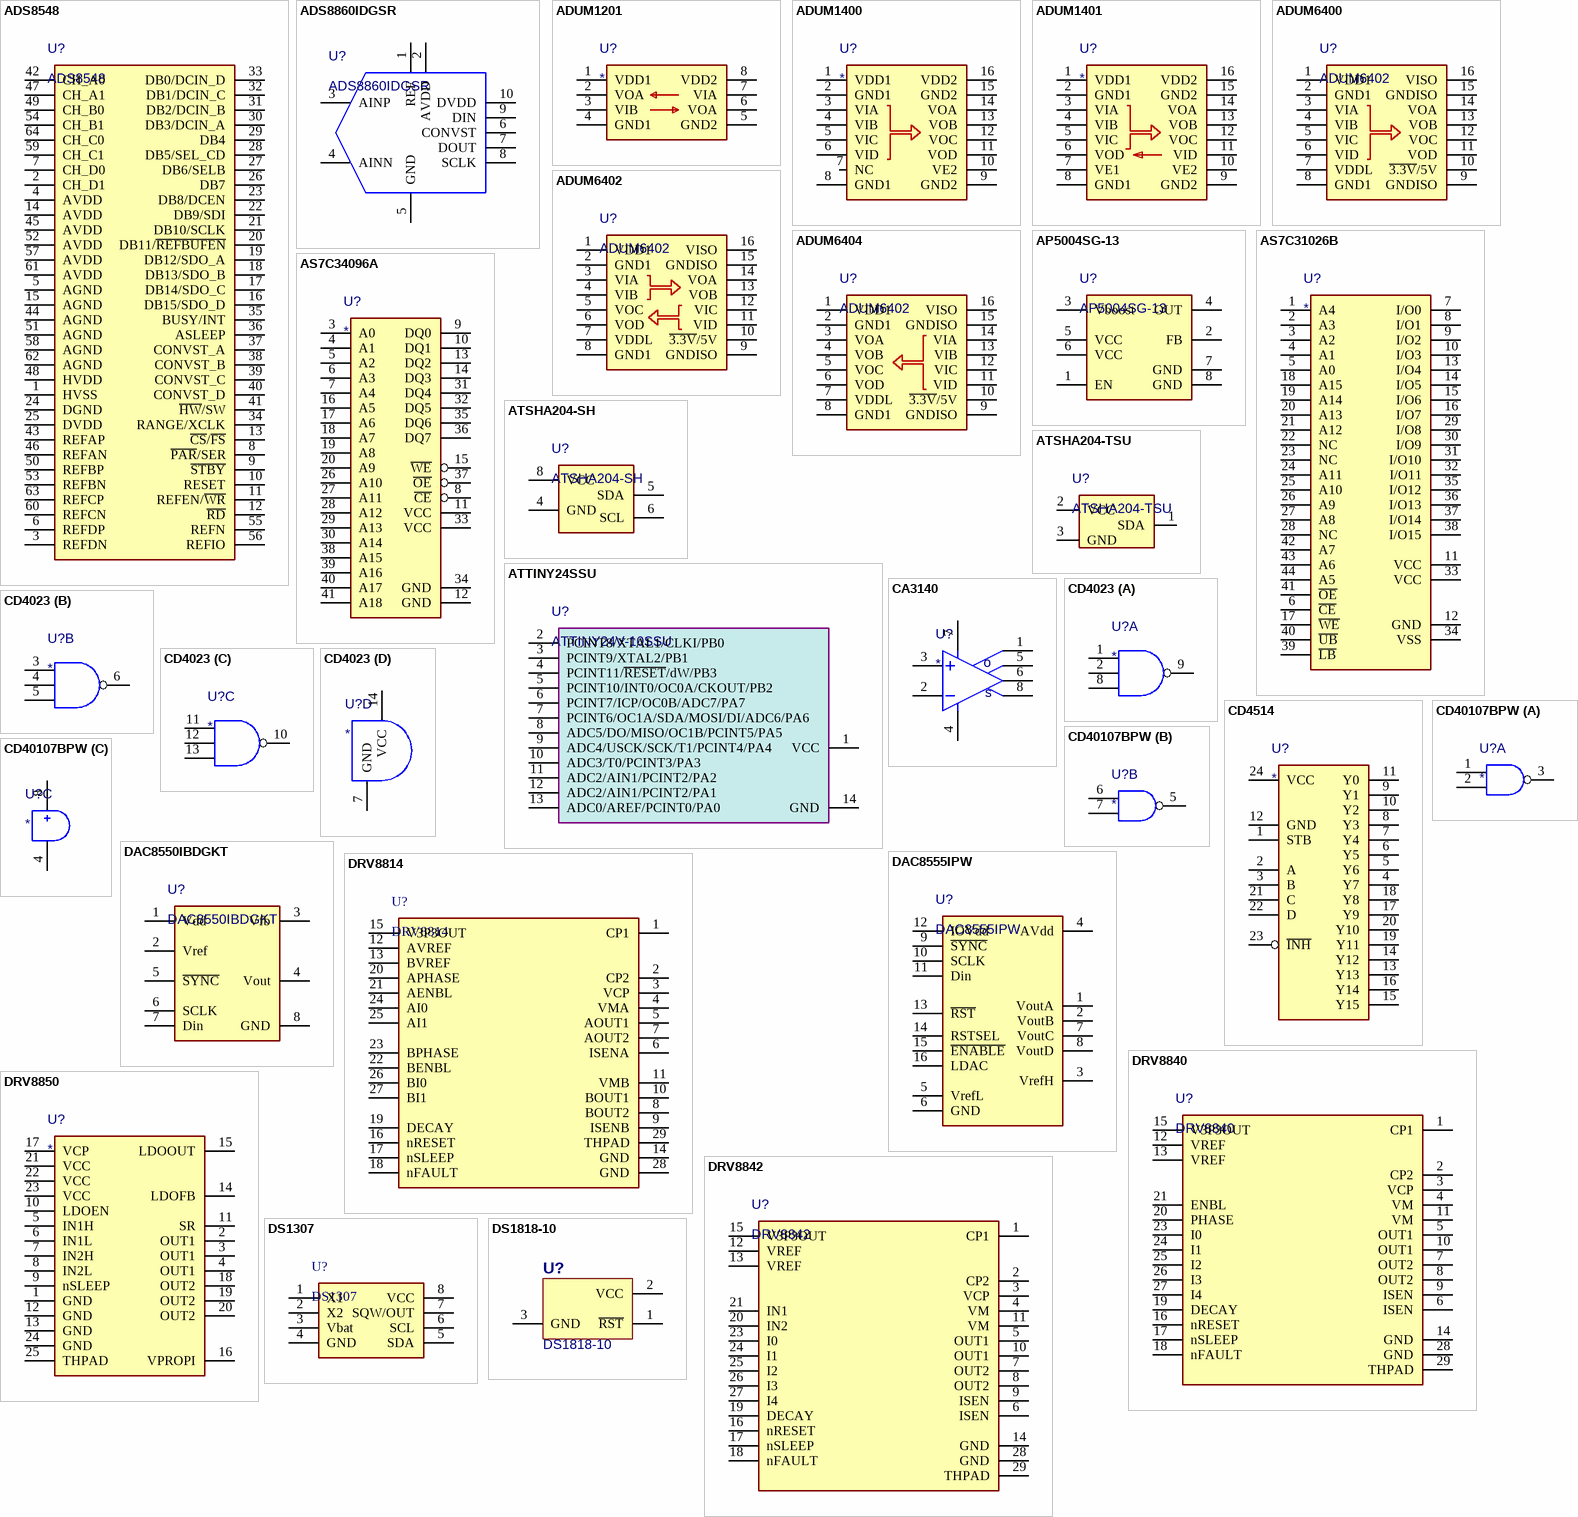
[diagram p3: symbols ADS8548 to DS1818-10]

## ADS8548
designator U?
Value: ADS8548
pins: 1 HVSS, 2 CH_D1, 3 REFDN, 4 AVDD, 5 AGND, 6 REFDP, 7 CH_D0, 8 ~{PAR}/SER, 9 ~{STBY}, 10 RESET, 11 REFEN/~{WR}, 12 ~{RD}, 13 ~{CS}/~{FS}, 14 AVDD, 15 AGND, 16 DB15/SDO_D, 17 DB14/SDO_C, 18 DB13/SDO_B, 19 DB12/SDO_A, 20 DB11/~{REFBUFEN}, 21 DB10/SCLK, 22 DB9/SDI, 23 DB8/DCEN, 24 DGND, 25 DVDD, 26 DB7, 27 DB6/SELB, 28 DB5/SEL_CD, 29 DB4, 30 DB3/DCIN_A, 31 DB2/DCIN_B, 32 DB1/DCIN_C, 33 DB0/DCIN_D, 34 RANGE/XCLK, 35 BUSY/INT, 36 ASLEEP, 37 CONVST_A, 38 CONVST_B, 39 CONVST_C, 40 CONVST_D, 41 ~{HW}/SW, 42 CH_A0, 43 REFAP, 44 AGND, 45 AVDD, 46 REFAN, 47 CH_A1, 48 HVDD, 49 CH_B0, 50 REFBP, 51 AGND, 52 AVDD, 53 REFBN, 54 CH_B1, 55 REFN, 56 REFIO, 57 AVDD, 58 AGND, 59 CH_C1, 60 REFCN, 61 AVDD, 62 AGND, 63 REFCP, 64 CH_C0

## ADS8860IDGSR
designator U?
Value: ADS8860IDGSR
pins: 1 REF, 2 AVDD, 3 AINP, 4 AINN, 5 GND, 6 CONVST, 7 DOUT, 8 SCLK, 9 DIN, 10 DVDD

## ADUM1201
designator U?
Value: *
pins: 1 VDD1, 2 VOA, 3 VIB, 4 GND1, 5 GND2, 6 VOA, 7 VIA, 8 VDD2

## ADUM1400
designator U?
Value: *
pins: 1 VDD1, 2 GND1, 3 VIA, 4 VIB, 5 VIC, 6 VID, 7 NC, 8 GND1, 9 GND2, 10 VE2, 11 VOD, 12 VOC, 13 VOB, 14 VOA, 15 GND2, 16 VDD2

## ADUM1401
designator U?
Value: *
pins: 1 VDD1, 2 GND1, 3 VIA, 4 VIB, 5 VIC, 6 VOD, 7 VE1, 8 GND1, 9 GND2, 10 VE2, 11 VID, 12 VOC, 13 VOB, 14 VOA, 15 GND2, 16 VDD2

## ADUM6400
designator U?, comment ADUM6402
Value: ADUM6402
pins: 1 VDD1, 2 GND1, 3 VIA, 4 VIB, 5 VIC, 6 VID, 7 VDDL, 8 GND1, 9 GNDISO, 10 ~{3.3V}/5V, 11 VOD, 12 VOC, 13 VOB, 14 VOA, 15 GNDISO, 16 VISO

## ADUM6402
designator U?
Value: ADUM6402
pins: 1 VDD1, 2 GND1, 3 VIA, 4 VIB, 5 VOC, 6 VOD, 7 VDDL, 8 GND1, 9 GNDISO, 10 ~{3.3V}/5V, 11 VID, 12 VIC, 13 VOB, 14 VOA, 15 GNDISO, 16 VISO

## ADUM6404
designator U?, comment ADUM6402
Value: ADUM6402
pins: 1 VDD1, 2 GND1, 3 VOA, 4 VOB, 5 VOC, 6 VOD, 7 VDDL, 8 GND1, 9 GNDISO, 10 ~{3.3V}/5V, 11 VID, 12 VIC, 13 VIB, 14 VIA, 15 GNDISO, 16 VISO

## AP5004SG-13
designator U?
Value: AP5004SG-13
pins: 1 EN, 2 FB, 3 Vboost, 4 OUT, 5 VCC, 6 VCC, 7 GND, 8 GND

## AS7C31026B
designator U?
Value: *
pins: 1 A4, 2 A3, 3 A2, 4 A1, 5 A0, 6 ~{CE}, 7 I/O0, 8 I/O1, 9 I/O2, 10 I/O3, 11 VCC, 12 GND, 13 I/O4, 14 I/O5, 15 I/O6, 16 I/O7, 17 ~{WE}, 18 A15, 19 A14, 20 A13, 21 A12, 22 NC, 23 NC, 24 A11, 25 A10, 26 A9, 27 A8, 28 NC, 29 I/O8, 30 I/O9, 31 I/O10, 32 I/O11, 33 VCC, 34 VSS, 35 I/O12, 36 I/O13, 37 I/O14, 38 I/O15, 39 ~{LB}, 40 ~{UB}, 41 ~{OE}, 42 A7, 43 A6, 44 A5

## AS7C34096A
designator U?
Value: *
pins: 3 A0, 4 A1, 5 A2, 6 A3, 7 A4, 8 ~{CE}, 9 DQ0, 10 DQ1, 11 VCC, 12 GND, 13 DQ2, 14 DQ3, 15 ~{WE}, 16 A5, 17 A6, 18 A7, 19 A8, 20 A9, 26 A10, 27 A11, 28 A12, 29 A13, 30 A14, 31 DQ4, 32 DQ5, 33 VCC, 34 GND, 35 DQ6, 36 DQ7, 37 ~{OE}, 38 A15, 39 A16, 40 A17, 41 A18

## ATSHA204-SH
designator U?
Value: ATSHA204-SH
pins: 4 GND, 5 SDA, 6 SCL, 8 VCC

## ATSHA204-TSU
designator U?
Value: ATSHA204-TSU
pins: 1 SDA, 2 VCC, 3 GND

## ATTINY24SSU
designator U?, comment ATTINY24V-10SSU
Value: ATTINY24V-10SSU
pins: 1 VCC, 2 PCINT8/XTAL1/CLKI/PB0, 3 PCINT9/XTAL2/PB1, 4 PCINT11/~{RESET}/dW/PB3, 5 PCINT10/INT0/OC0A/CKOUT/PB2, 6 PCINT7/ICP/OC0B/ADC7/PA7, 7 PCINT6/OC1A/SDA/MOSI/DI/ADC6/PA6, 8 ADC5/DO/MISO/OC1B/PCINT5/PA5, 9 ADC4/USCK/SCK/T1/PCINT4/PA4, 10 ADC3/T0/PCINT3/PA3, 11 ADC2/AIN1/PCINT2/PA2, 12 ADC2/AIN1/PCINT2/PA1, 13 ADC0/AREF/PCINT0/PA0, 14 GND

## CA3140
designator U?
Value: *
pins: 1 FIN COMPENSATIO, 2 MINUS INPUT, 3 PLUS INPUT, 4 MINUS V, 5 FOUT COMPENSATI, 6 OUTPUT, 7 PLUS V, 8 FIN COMPENSATIO
text: o; s

## CD4023
designator U?
Value: *
part A pins: 1 I0, 2 I1, 8 I2, 9 O
part B pins: 3 I0, 4 I1, 5 I2, 6 O
part C pins: 10 O, 11 I0, 12 I1, 13 I2
part D pins: 7 GND, 14 VCC

## CD4514
designator U?
Value: *
pins: 1 STB, 2 A, 3 B, 4 Y7, 5 Y6, 6 Y5, 7 Y4, 8 Y3, 9 Y1, 10 Y2, 11 Y0, 12 GND, 13 Y13, 14 Y12, 15 Y15, 16 Y14, 17 Y9, 18 Y8, 19 Y11, 20 Y10, 21 C, 22 D, 23 ~{INH}, 24 VCC

## CD40107BPW
designator U?
Value: *
part A pins: 1 I0, 2 I1, 3 O
part B pins: 5 O, 6 I0, 7 I1
part C pins: 4 GND, 8 VCC

## DAC8550IBDGKT
designator U?
Value: DAC8550IBDGKT
pins: 1 Vdd, 2 Vref, 3 Vfb, 4 Vout, 5 ~{SYNC}, 6 SCLK, 7 Din, 8 GND

## DAC8555IPW
designator U?
Value: DAC8555IPW
pins: 1 VoutA, 2 VoutB, 3 VrefH, 4 AVdd, 5 VrefL, 6 GND, 7 VoutC, 8 VoutD, 9 ~{SYNC}, 10 SCLK, 11 Din, 12 IOVdd, 13 ~{RST}, 14 RSTSEL, 15 ~{ENABLE}, 16 LDAC

## DRV8814
designator U?
Value: DRV8814
pins: 1 CP1, 2 CP2, 3 VCP, 4 VMA, 5 AOUT1, 6 ISENA, 7 AOUT2, 8 BOUT2, 9 ISENB, 10 BOUT1, 11 VMB, 12 AVREF, 13 BVREF, 14 GND, 15 V3P3OUT, 16 nRESET, 17 nSLEEP, 18 nFAULT, 19 DECAY, 20 APHASE, 21 AENBL, 22 BENBL, 23 BPHASE, 24 AI0, 25 AI1, 26 BI0, 27 BI1, 28 GND, 29 THPAD

## DRV8840
designator U?
Value: DRV8840
pins: 1 CP1, 2 CP2, 3 VCP, 4 VM, 5 OUT1, 6 ISEN, 7 OUT2, 8 OUT2, 9 ISEN, 10 OUT1, 11 VM, 12 VREF, 13 VREF, 14 GND, 15 V3P3OUT, 16 nRESET, 17 nSLEEP, 18 nFAULT, 19 DECAY, 20 PHASE, 21 ENBL, 23 I0, 24 I1, 25 I2, 26 I3, 27 I4, 28 GND, 29 THPAD

## DRV8842
designator U?
Value: DRV8842
pins: 1 CP1, 2 CP2, 3 VCP, 4 VM, 5 OUT1, 6 ISEN, 7 OUT2, 8 OUT2, 9 ISEN, 10 OUT1, 11 VM, 12 VREF, 13 VREF, 14 GND, 15 V3P3OUT, 16 nRESET, 17 nSLEEP, 18 nFAULT, 19 DECAY, 20 IN2, 21 IN1, 23 I0, 24 I1, 25 I2, 26 I3, 27 I4, 28 GND, 29 THPAD

## DRV8850
designator U?
Value: *
pins: 1 GND, 2 OUT1, 3 OUT1, 4 OUT1, 5 IN1H, 6 IN1L, 7 IN2H, 8 IN2L, 9 nSLEEP, 10 LDOEN, 11 SR, 12 GND, 13 GND, 14 LDOFB, 15 LDOOUT, 16 VPROPI, 17 VCP, 18 OUT2, 19 OUT2, 20 OUT2, 21 VCC, 22 VCC, 23 VCC, 24 GND, 25 THPAD

## DS1307
designator U?
Value: DS1307
pins: 1 X1, 2 X2, 3 Vbat, 4 GND, 5 SDA, 6 SCL, 7 SQW/OUT, 8 VCC

## DS1818-10
designator U?
3.3V EconoReset with Pushbutton; Value: DS1818-10
pins: 1 ~{RST}, 2 VCC (power), 3 GND (power)

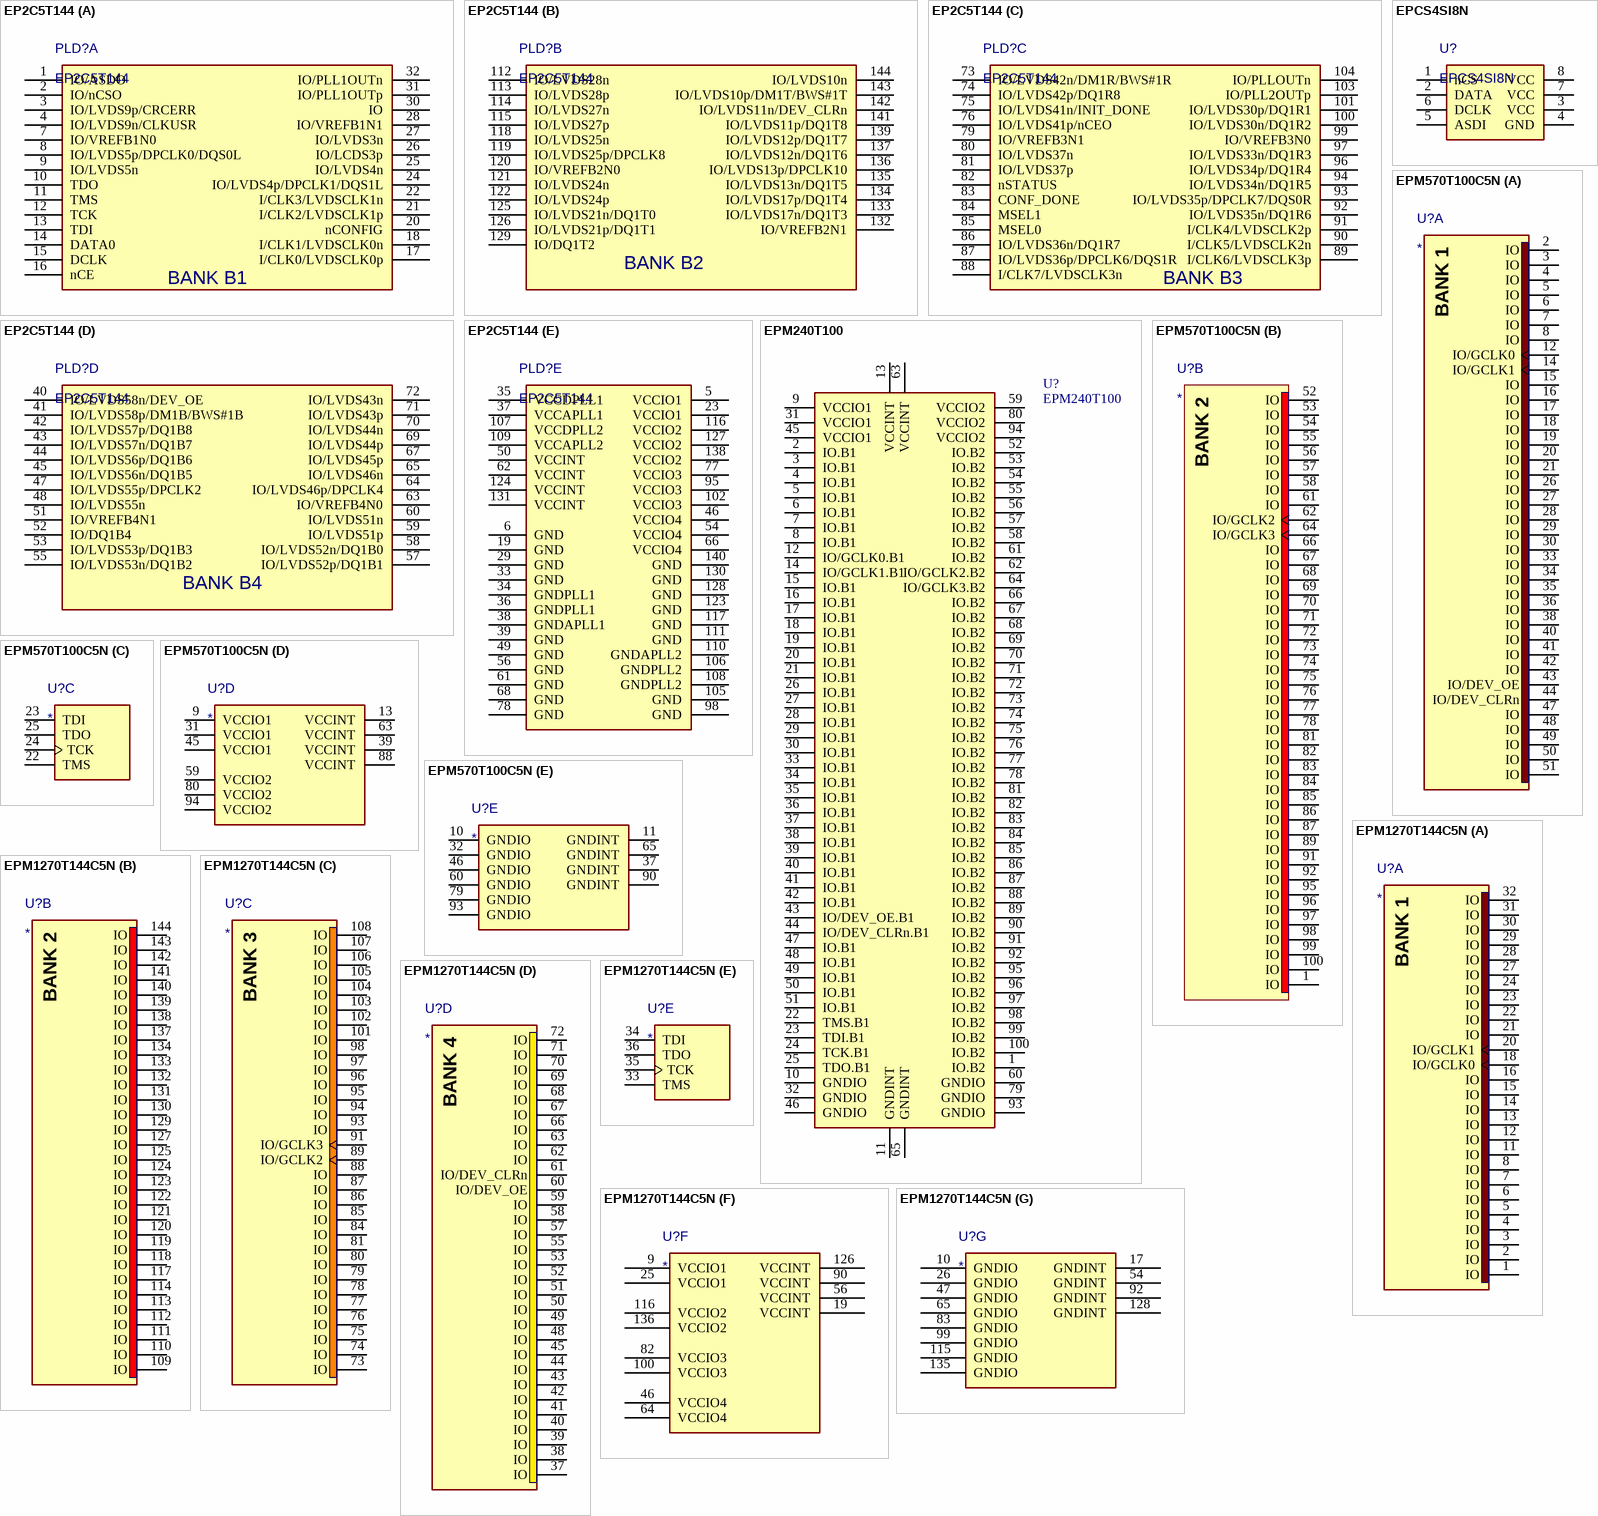
[diagram p4: symbols EP2C5T144 to EPM1270T144C5N]

## EP2C5T144
designator PLD?
Value: EP2C5T144
part A pins: 1 IO/ASDO, 2 IO/nCSO, 3 IO/LVDS9p/CRCERR, 4 IO/LVDS9n/CLKUSR, 7 IO/VREFB1N0, 8 IO/LVDS5p/DPCLK0/DQS0L, 9 IO/LVDS5n, 10 TDO, 11 TMS, 12 TCK, 13 TDI, 14 DATA0, 15 DCLK, 16 nCE, 17 I/CLK0/LVDSCLK0p, 18 I/CLK1/LVDSCLK0n, 20 nCONFIG, 21 I/CLK2/LVDSCLK1p, 22 I/CLK3/LVDSCLK1n, 24 IO/LVDS4p/DPCLK1/DQS1L, 25 IO/LVDS4n, 26 IO/LCDS3p, 27 IO/LVDS3n, 28 IO/VREFB1N1, 30 IO, 31 IO/PLL1OUTp, 32 IO/PLL1OUTn
part B pins: 112 IO/LVDS28n, 113 IO/LVDS28p, 114 IO/LVDS27n, 115 IO/LVDS27p, 118 IO/LVDS25n, 119 IO/LVDS25p/DPCLK8, 120 IO/VREFB2N0, 121 IO/LVDS24n, 122 IO/LVDS24p, 125 IO/LVDS21n/DQ1T0, 126 IO/LVDS21p/DQ1T1, 129 IO/DQ1T2, 132 IO/VREFB2N1, 133 IO/LVDS17n/DQ1T3, 134 IO/LVDS17p/DQ1T4, 135 IO/LVDS13n/DQ1T5, 136 IO/LVDS13p/DPCLK10, 137 IO/LVDS12n/DQ1T6, 139 IO/LVDS12p/DQ1T7, 141 IO/LVDS11p/DQ1T8, 142 IO/LVDS11n/DEV_CLRn, 143 IO/LVDS10p/DM1T/BWS#1T, 144 IO/LVDS10n
part C pins: 73 IO/LVDS42n/DM1R/BWS#1R, 74 IO/LVDS42p/DQ1R8, 75 IO/LVDS41n/INIT_DONE, 76 IO/LVDS41p/nCEO, 79 IO/VREFB3N1, 80 IO/LVDS37n, 81 IO/LVDS37p, 82 nSTATUS, 83 CONF_DONE, 84 MSEL1, 85 MSEL0, 86 IO/LVDS36n/DQ1R7, 87 IO/LVDS36p/DPCLK6/DQS1R, 88 I/CLK7/LVDSCLK3n, 89 I/CLK6/LVDSCLK3p, 90 I/CLK5/LVDSCLK2n, 91 I/CLK4/LVDSCLK2p, 92 IO/LVDS35n/DQ1R6, 93 IO/LVDS35p/DPCLK7/DQS0R, 94 IO/LVDS34n/DQ1R5, 96 IO/LVDS34p/DQ1R4, 97 IO/LVDS33n/DQ1R3, 99 IO/VREFB3N0, 100 IO/LVDS30n/DQ1R2, 101 IO/LVDS30p/DQ1R1, 103 IO/PLL2OUTp, 104 IO/PLLOUTn
part D pins: 40 IO/LVDS58n/DEV_OE, 41 IO/LVDS58p/DM1B/BWS#1B, 42 IO/LVDS57p/DQ1B8, 43 IO/LVDS57n/DQ1B7, 44 IO/LVDS56p/DQ1B6, 45 IO/LVDS56n/DQ1B5, 47 IO/LVDS55p/DPCLK2, 48 IO/LVDS55n, 51 IO/VREFB4N1, 52 IO/DQ1B4, 53 IO/LVDS53p/DQ1B3, 55 IO/LVDS53n/DQ1B2, 57 IO/LVDS52p/DQ1B1, 58 IO/LVDS52n/DQ1B0, 59 IO/LVDS51p, 60 IO/LVDS51n, 63 IO/VREFB4N0, 64 IO/LVDS46p/DPCLK4, 65 IO/LVDS46n, 67 IO/LVDS45p, 69 IO/LVDS44p, 70 IO/LVDS44n, 71 IO/LVDS43p, 72 IO/LVDS43n
part E pins: 5 VCCIO1, 6 GND, 19 GND, 23 VCCIO1, 29 GND, 33 GND, 34 GNDPLL1, 35 VCCDPLL1, 36 GNDPLL1, 37 VCCAPLL1, 38 GNDAPLL1, 39 GND, 46 VCCIO4, 49 GND, 50 VCCINT, 54 VCCIO4, 56 GND, 61 GND, 62 VCCINT, 66 VCCIO4, 68 GND, 77 VCCIO3, 78 GND, 95 VCCIO3, 98 GND, 102 VCCIO3, 105 GND, 106 GNDPLL2, 107 VCCDPLL2, 108 GNDPLL2, 109 VCCAPLL2, 110 GNDAPLL2, 111 GND, 116 VCCIO2, 117 GND, 123 GND, 124 VCCINT, 127 VCCIO2, 128 GND, 130 GND, 131 VCCINT, 138 VCCIO2, 140 GND
part A text: BANK B1
part B text: BANK B2
part C text: BANK B3
part D text: BANK B4

## EPCS4SI8N
designator U?
Value: EPCS4SI8N
pins: 1 nCS, 2 DATA, 3 VCC, 4 GND, 5 ASDI, 6 DCLK, 7 VCC, 8 VCC

## EPM240T100
designator U?
Value: EPM240T100
footprint MS-026BED
pins: 1 IO.B2, 2 IO.B1, 3 IO.B1, 4 IO.B1, 5 IO.B1, 6 IO.B1, 7 IO.B1, 8 IO.B1, 9 VCCIO1 (power), 10 GNDIO, 11 GNDINT, 12 IO/GCLK0.B1, 13 VCCINT, 14 IO/GCLK1.B1, 15 IO.B1, 16 IO.B1, 17 IO.B1, 18 IO.B1, 19 IO.B1, 20 IO.B1, 21 IO.B1, 22 TMS.B1, 23 TDI.B1, 24 TCK.B1, 25 TDO.B1, 26 IO.B1, 27 IO.B1, 28 IO.B1, 29 IO.B1, 30 IO.B1, 31 VCCIO1 (power), 32 GNDIO, 33 IO.B1, 34 IO.B1, 35 IO.B1, 36 IO.B1, 37 IO.B1, 38 IO.B1, 39 IO.B1, 40 IO.B1, 41 IO.B1, 42 IO.B1, 43 IO/DEV_OE.B1, 44 IO/DEV_CLRn.B1, 45 VCCIO1 (power), 46 GNDIO, 47 IO.B1, 48 IO.B1, 49 IO.B1, 50 IO.B1, 51 IO.B1, 52 IO.B2, 53 IO.B2, 54 IO.B2, 55 IO.B2, 56 IO.B2, 57 IO.B2, 58 IO.B2, 59 VCCIO2 (power), 60 GNDIO, 61 IO.B2, 62 IO/GCLK2.B2, 63 VCCINT, 64 IO/GCLK3.B2, 65 GNDINT, 66 IO.B2, 67 IO.B2, 68 IO.B2, 69 IO.B2, 70 IO.B2, 71 IO.B2, 72 IO.B2, 73 IO.B2, 74 IO.B2, 75 IO.B2, 76 IO.B2, 77 IO.B2, 78 IO.B2, 79 GNDIO, 80 VCCIO2 (power), 81 IO.B2, 82 IO.B2, 83 IO.B2, 84 IO.B2, 85 IO.B2, 86 IO.B2, 87 IO.B2, 88 IO.B2, 89 IO.B2, 90 IO.B2, 91 IO.B2, 92 IO.B2, 93 GNDIO, 94 VCCIO2 (power), 95 IO.B2, 96 IO.B2, 97 IO.B2, 98 IO.B2, 99 IO.B2, 100 IO.B2

## EPM570T100C5N
designator U?
Value: *
part A pins: 2 IO, 3 IO, 4 IO, 5 IO, 6 IO, 7 IO, 8 IO, 12 IO/GCLK0, 14 IO/GCLK1, 15 IO, 16 IO, 17 IO, 18 IO, 19 IO, 20 IO, 21 IO, 26 IO, 27 IO, 28 IO, 29 IO, 30 IO, 33 IO, 34 IO, 35 IO, 36 IO, 38 IO, 40 IO, 41 IO, 42 IO, 43 IO/DEV_OE, 44 IO/DEV_CLRn, 47 IO, 48 IO, 49 IO, 50 IO, 51 IO
part B pins: 1 IO, 52 IO, 53 IO, 54 IO, 55 IO, 56 IO, 57 IO, 58 IO, 61 IO, 62 IO/GCLK2, 64 IO/GCLK3, 66 IO, 67 IO, 68 IO, 69 IO, 70 IO, 71 IO, 72 IO, 73 IO, 74 IO, 75 IO, 76 IO, 77 IO, 78 IO, 81 IO, 82 IO, 83 IO, 84 IO, 85 IO, 86 IO, 87 IO, 89 IO, 91 IO, 92 IO, 95 IO, 96 IO, 97 IO, 98 IO, 99 IO, 100 IO
part C pins: 22 TMS, 23 TDI, 24 TCK, 25 TDO
part D pins: 9 VCCIO1, 13 VCCINT, 31 VCCIO1, 39 VCCINT, 45 VCCIO1, 59 VCCIO2, 63 VCCINT, 80 VCCIO2, 88 VCCINT, 94 VCCIO2
part E pins: 10 GNDIO, 11 GNDINT, 32 GNDIO, 37 GNDINT, 46 GNDIO, 60 GNDIO, 65 GNDINT, 79 GNDIO, 90 GNDINT, 93 GNDIO
part A text: BANK 1
part B text: BANK 2

## EPM1270T144C5N
designator U?
Value: *
part A pins: 1 IO, 2 IO, 3 IO, 4 IO, 5 IO, 6 IO, 7 IO, 8 IO, 11 IO, 12 IO, 13 IO, 14 IO, 15 IO, 16 IO, 18 IO/GCLK0, 20 IO/GCLK1, 21 IO, 22 IO, 23 IO, 24 IO, 27 IO, 28 IO, 29 IO, 30 IO, 31 IO, 32 IO
part B pins: 109 IO, 110 IO, 111 IO, 112 IO, 113 IO, 114 IO, 117 IO, 118 IO, 119 IO, 120 IO, 121 IO, 122 IO, 123 IO, 124 IO, 125 IO, 127 IO, 129 IO, 130 IO, 131 IO, 132 IO, 133 IO, 134 IO, 137 IO, 138 IO, 139 IO, 140 IO, 141 IO, 142 IO, 143 IO, 144 IO
part C pins: 73 IO, 74 IO, 75 IO, 76 IO, 77 IO, 78 IO, 79 IO, 80 IO, 81 IO, 84 IO, 85 IO, 86 IO, 87 IO, 88 IO, 89 IO/GCLK2, 91 IO/GCLK3, 93 IO, 94 IO, 95 IO, 96 IO, 97 IO, 98 IO, 101 IO, 102 IO, 103 IO, 104 IO, 105 IO, 106 IO, 107 IO, 108 IO
part D pins: 37 IO, 38 IO, 39 IO, 40 IO, 41 IO, 42 IO, 43 IO, 44 IO, 45 IO, 48 IO, 49 IO, 50 IO, 51 IO, 52 IO, 53 IO, 55 IO, 57 IO, 58 IO, 59 IO, 60 IO/DEV_OE, 61 IO/DEV_CLRn, 62 IO, 63 IO, 66 IO, 67 IO, 68 IO, 69 IO, 70 IO, 71 IO, 72 IO
part E pins: 33 TMS, 34 TDI, 35 TCK, 36 TDO
part F pins: 9 VCCIO1 (power), 19 VCCINT (power), 25 VCCIO1 (power), 46 VCCIO4 (power), 56 VCCINT (power), 64 VCCIO4 (power), 82 VCCIO3 (power), 90 VCCINT (power), 100 VCCIO3 (power), 116 VCCIO2 (power), 126 VCCINT (power), 136 VCCIO2 (power)
part G pins: 10 GNDIO (power), 17 GNDINT (power), 26 GNDIO (power), 47 GNDIO (power), 54 GNDINT (power), 65 GNDIO (power), 83 GNDIO (power), 92 GNDINT (power), 99 GNDIO (power), 115 GNDIO (power), 128 GNDINT (power), 135 GNDIO (power)
part A text: BANK 1
part B text: BANK 2
part C text: BANK 3
part D text: BANK 4

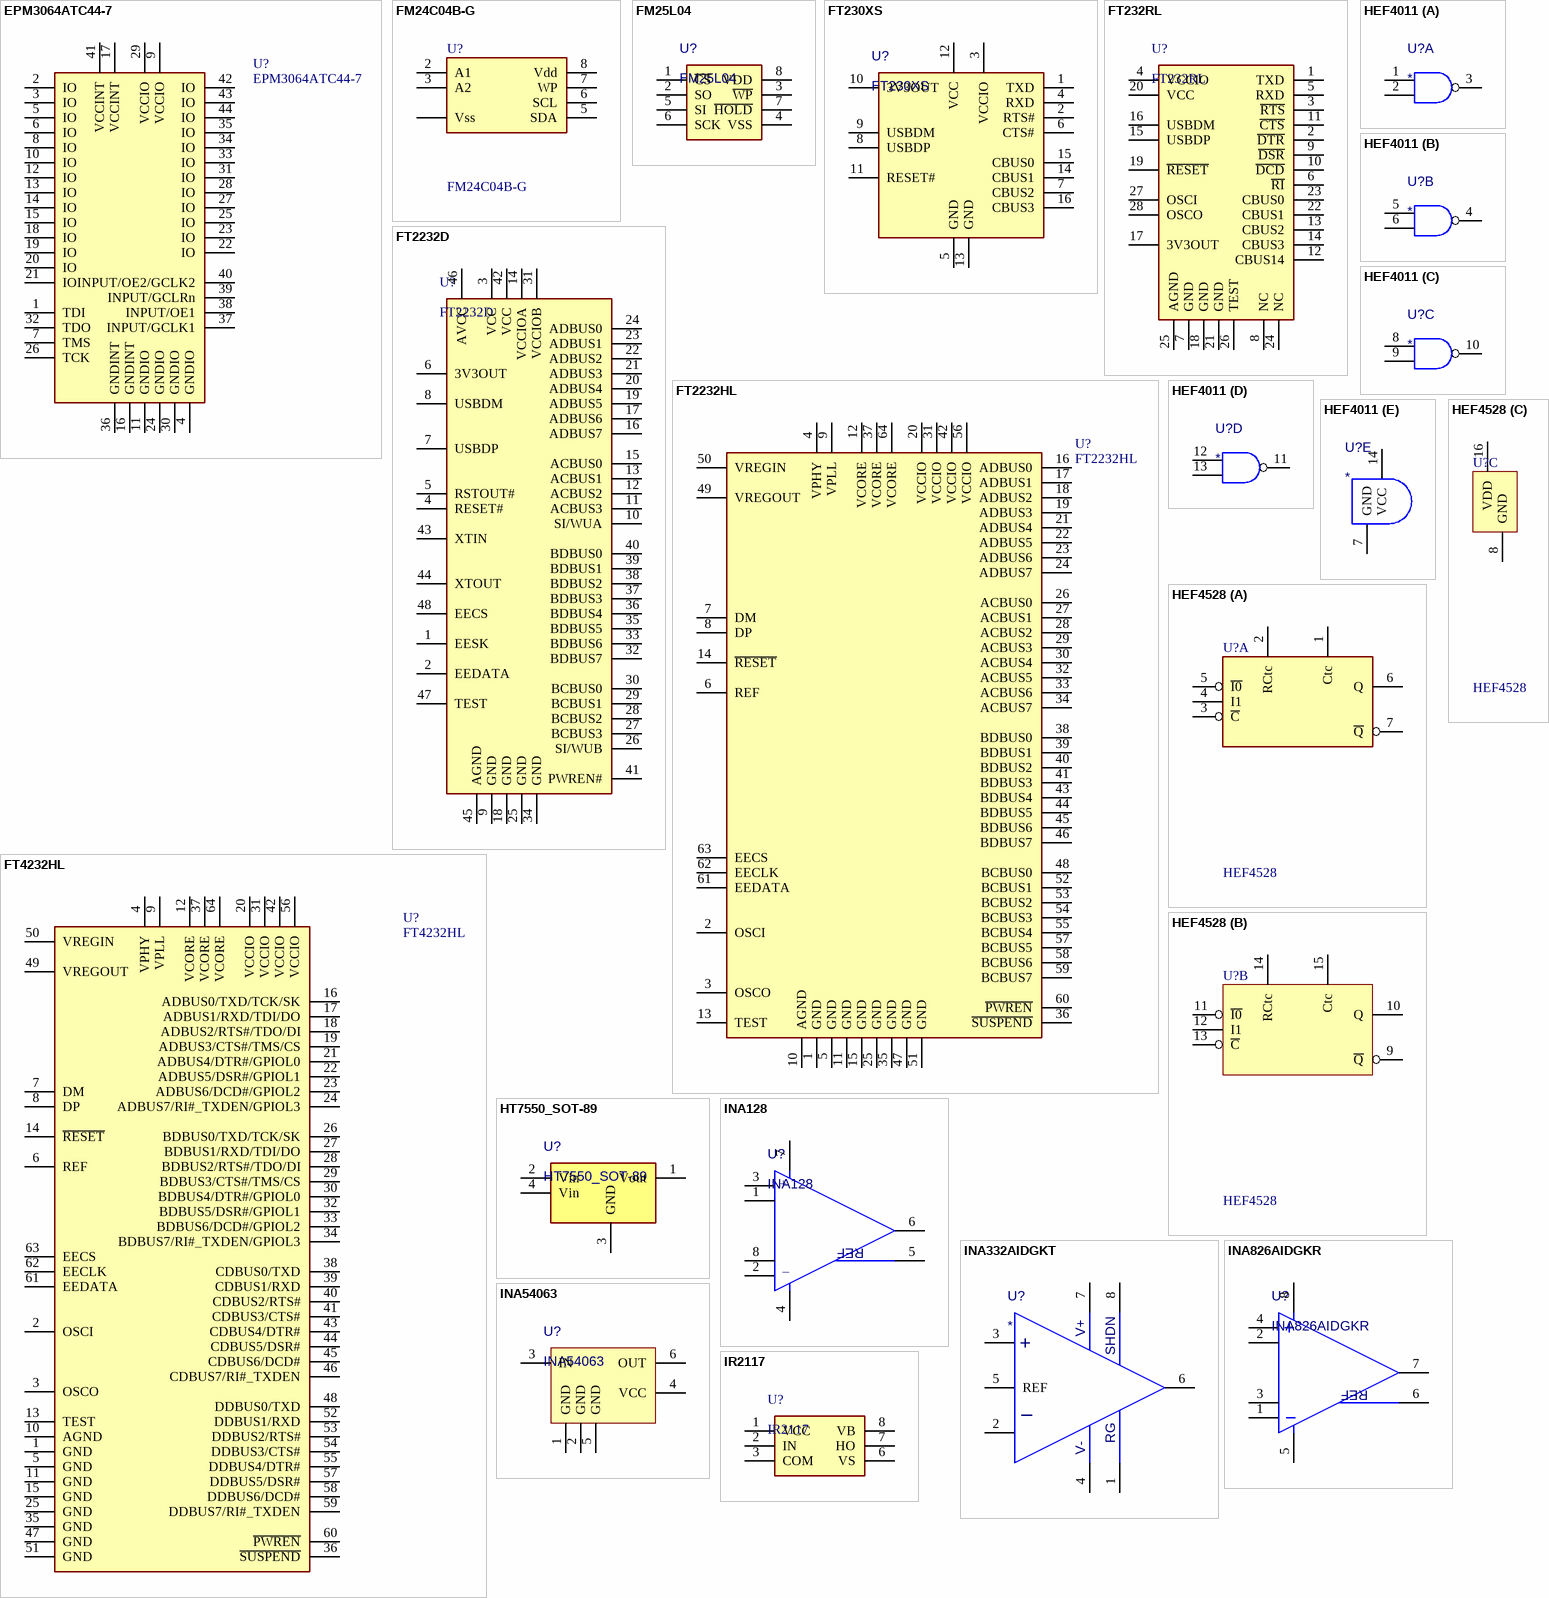
[diagram p5: symbols EPM3064ATC44-7 to IR2117]

## EPM3064ATC44-7
designator U?
CPLD circuit; Value: EPM3064ATC44-7
pins: 1 TDI, 2 IO, 3 IO, 4 GNDIO, 5 IO, 6 IO, 7 TMS, 8 IO, 9 VCCIO, 10 IO, 11 GNDIO, 12 IO, 13 IO, 14 IO, 15 IO, 16 GNDINT, 17 VCCINT, 18 IO, 19 IO, 20 IO, 21 IO, 22 IO, 23 IO, 24 GNDIO, 25 IO, 26 TCK, 27 IO, 28 IO, 29 VCCIO, 30 GNDIO, 31 IO, 32 TDO, 33 IO, 34 IO, 35 IO, 36 GNDINT, 37 INPUT/GCLK1, 38 INPUT/OE1, 39 INPUT/GCLRn, 40 INPUT/OE2/GCLK2, 41 VCCINT, 42 IO, 43 IO, 44 IO

## FM24C04B-G
designator U?
Value: FM24C04B-G
pins: 2 A1, 3 A2, 4 Vss, 5 SDA, 6 SCL, 7 WP, 8 Vdd

## FM25L04
designator U?
Value: FM25L04
pins: 1 ~{CS}, 2 SO, 3 ~{WP}, 4 VSS, 5 SI, 6 SCK, 7 ~{HOLD}, 8 VDD

## FT230XS
designator U?
Value: FT230XS
pins: 1 TXD, 2 RTS#, 3 VCCIO, 4 RXD, 5 GND, 6 CTS#, 7 CBUS2, 8 USBDP, 9 USBDM, 10 3V3OUT, 11 RESET#, 12 VCC, 13 GND, 14 CBUS1, 15 CBUS0, 16 CBUS3

## FT232RL
designator U?
Value: FT232RL
footprint MO-150AH
pins: 1 TXD, 2 ~{DTR}, 3 ~{RTS}, 4 VCCIO, 5 RXD, 6 ~{RI}, 7 GND, 8 NC, 9 ~{DSR}, 10 ~{DCD}, 11 ~{CTS}, 12 CBUS14, 13 CBUS2, 14 CBUS3, 15 USBDP, 16 USBDM, 17 3V3OUT, 18 GND, 19 ~{RESET}, 20 VCC, 21 GND, 22 CBUS1, 23 CBUS0, 24 NC, 25 AGND, 26 TEST, 27 OSCI, 28 OSCO

## FT2232D
designator U?
Value: FT2232D
pins: 1 EESK, 2 EEDATA, 3 VCC, 4 RESET#, 5 RSTOUT#, 6 3V3OUT, 7 USBDP, 8 USBDM, 9 GND, 10 SI/WUA, 11 ACBUS3, 12 ACBUS2, 13 ACBUS1, 14 VCCIOA, 15 ACBUS0, 16 ADBUS7, 17 ADBUS6, 18 GND, 19 ADBUS5, 20 ADBUS4, 21 ADBUS3, 22 ADBUS2, 23 ADBUS1, 24 ADBUS0, 25 GND, 26 SI/WUB, 27 BCBUS3, 28 BCBUS2, 29 BCBUS1, 30 BCBUS0, 31 VCCIOB, 32 BDBUS7, 33 BDBUS6, 34 GND, 35 BDBUS5, 36 BDBUS4, 37 BDBUS3, 38 BDBUS2, 39 BDBUS1, 40 BDBUS0, 41 PWREN#, 42 VCC, 43 XTIN, 44 XTOUT, 45 AGND, 46 AVCC, 47 TEST, 48 EECS

## FT2232HL
designator U?
Dual High Speed USB to Multipurpose UART/FIFO; Value: FT2232HL
pins: 1 GND, 2 OSCI, 3 OSCO, 4 VPHY, 5 GND, 6 REF, 7 DM, 8 DP, 9 VPLL, 10 AGND, 11 GND, 12 VCORE, 13 TEST, 14 ~{RESET}, 15 GND, 16 ADBUS0, 17 ADBUS1, 18 ADBUS2, 19 ADBUS3, 20 VCCIO, 21 ADBUS4, 22 ADBUS5, 23 ADBUS6, 24 ADBUS7, 25 GND, 26 ACBUS0, 27 ACBUS1, 28 ACBUS2, 29 ACBUS3, 30 ACBUS4, 31 VCCIO, 32 ACBUS5, 33 ACBUS6, 34 ACBUS7, 35 GND, 36 ~{SUSPEND}, 37 VCORE, 38 BDBUS0, 39 BDBUS1, 40 BDBUS2, 41 BDBUS3, 42 VCCIO, 43 BDBUS4, 44 BDBUS5, 45 BDBUS6, 46 BDBUS7, 47 GND, 48 BCBUS0, 49 VREGOUT, 50 VREGIN, 51 GND, 52 BCBUS1, 53 BCBUS2, 54 BCBUS3, 55 BCBUS4, 56 VCCIO, 57 BCBUS5, 58 BCBUS6, 59 BCBUS7, 60 ~{PWREN}, 61 EEDATA, 62 EECLK, 63 EECS, 64 VCORE
2 alternate drawings of the same symbol

## FT4232HL
designator U?
Quad High Speed USB to Multipurpose UART/MPSSE; Value: FT4232HL
pins: 1 GND, 2 OSCI, 3 OSCO, 4 VPHY, 5 GND, 6 REF, 7 DM, 8 DP, 9 VPLL, 10 AGND, 11 GND, 12 VCORE, 13 TEST, 14 ~{RESET}, 15 GND, 16 ADBUS0/TXD/TCK/SK, 17 ADBUS1/RXD/TDI/DO, 18 ADBUS2/RTS#/TDO/DI, 19 ADBUS3/CTS#/TMS/CS, 20 VCCIO, 21 ADBUS4/DTR#/GPIOL0, 22 ADBUS5/DSR#/GPIOL1, 23 ADBUS6/DCD#/GPIOL2, 24 ADBUS7/RI#_TXDEN/GPIOL3, 25 GND, 26 BDBUS0/TXD/TCK/SK, 27 BDBUS1/RXD/TDI/DO, 28 BDBUS2/RTS#/TDO/DI, 29 BDBUS3/CTS#/TMS/CS, 30 BDBUS4/DTR#/GPIOL0, 31 VCCIO, 32 BDBUS5/DSR#/GPIOL1, 33 BDBUS6/DCD#/GPIOL2, 34 BDBUS7/RI#_TXDEN/GPIOL3, 35 GND, 36 ~{SUSPEND}, 37 VCORE, 38 CDBUS0/TXD, 39 CDBUS1/RXD, 40 CDBUS2/RTS#, 41 CDBUS3/CTS#, 42 VCCIO, 43 CDBUS4/DTR#, 44 CDBUS5/DSR#, 45 CDBUS6/DCD#, 46 CDBUS7/RI#_TXDEN, 47 GND, 48 DDBUS0/TXD, 49 VREGOUT, 50 VREGIN, 51 GND, 52 DDBUS1/RXD, 53 DDBUS2/RTS#, 54 DDBUS3/CTS#, 55 DDBUS4/DTR#, 56 VCCIO, 57 DDBUS5/DSR#, 58 DDBUS6/DCD#, 59 DDBUS7/RI#_TXDEN, 60 ~{PWREN}, 61 EEDATA, 62 EECLK, 63 EECS, 64 VCORE
2 alternate drawings of the same symbol

## HEF4011
designator U?
Value: *
part A pins: 1 I0, 2 I1, 3 O
part B pins: 4 O, 5 I0, 6 I1
part C pins: 8 I0, 9 I1, 10 O
part D pins: 11 O, 12 I0, 13 I1
part E pins: 7 GND, 14 VCC

## HEF4528
designator U?
Value: HEF4528
part A pins: 1 Ctc, 2 RCtc, 3 ~{C}, 4 I1, 5 ~{I0}, 6 Q, 7 ~{Q}
part B pins: 9 ~{Q}, 10 Q, 11 ~{I0}, 12 I1, 13 ~{C}, 14 RCtc, 15 Ctc
part C pins: 8 GND, 16 VDD

## HT7550_SOT-89
designator U?
Value: HT7550_SOT-89
pins: 1 Vout, 2 Vin, 3 GND, 4 Vin

## INA128
designator U?
Value: INA128
pins: 1, 2 MINUS INPUT, 3 PLUS INPUT, 4 MINUS V, 5, 6 OUTPUT, 7 PLUS V, 8
text: +; REF; _

## INA332AIDGKT
designator U?
INA332AIDGKT: INA332AIDGKT
pins: 1, 2, 3, 4, 5 REF, 6, 7, 8
text: V+; SHDN; +; _; RG; V-

## INA826AIDGKR
designator U?
Value: INA826AIDGKR
pins: 1 MINUS INPUT, 2 1, 3 8, 4 PLUS INPUT, 5 MINUS V, 6 5, 7 OUTPUT, 8 PLUS V
text: REF

## INA54063
designator U?
Value: INA54063
pins: 1 GND, 2 GND, 3 IN, 4 VCC, 5 GND, 6 OUT

## IR2117
designator U?
Value: IR2117
pins: 1 VCC, 2 IN, 3 COM, 6 VS, 7 HO, 8 VB

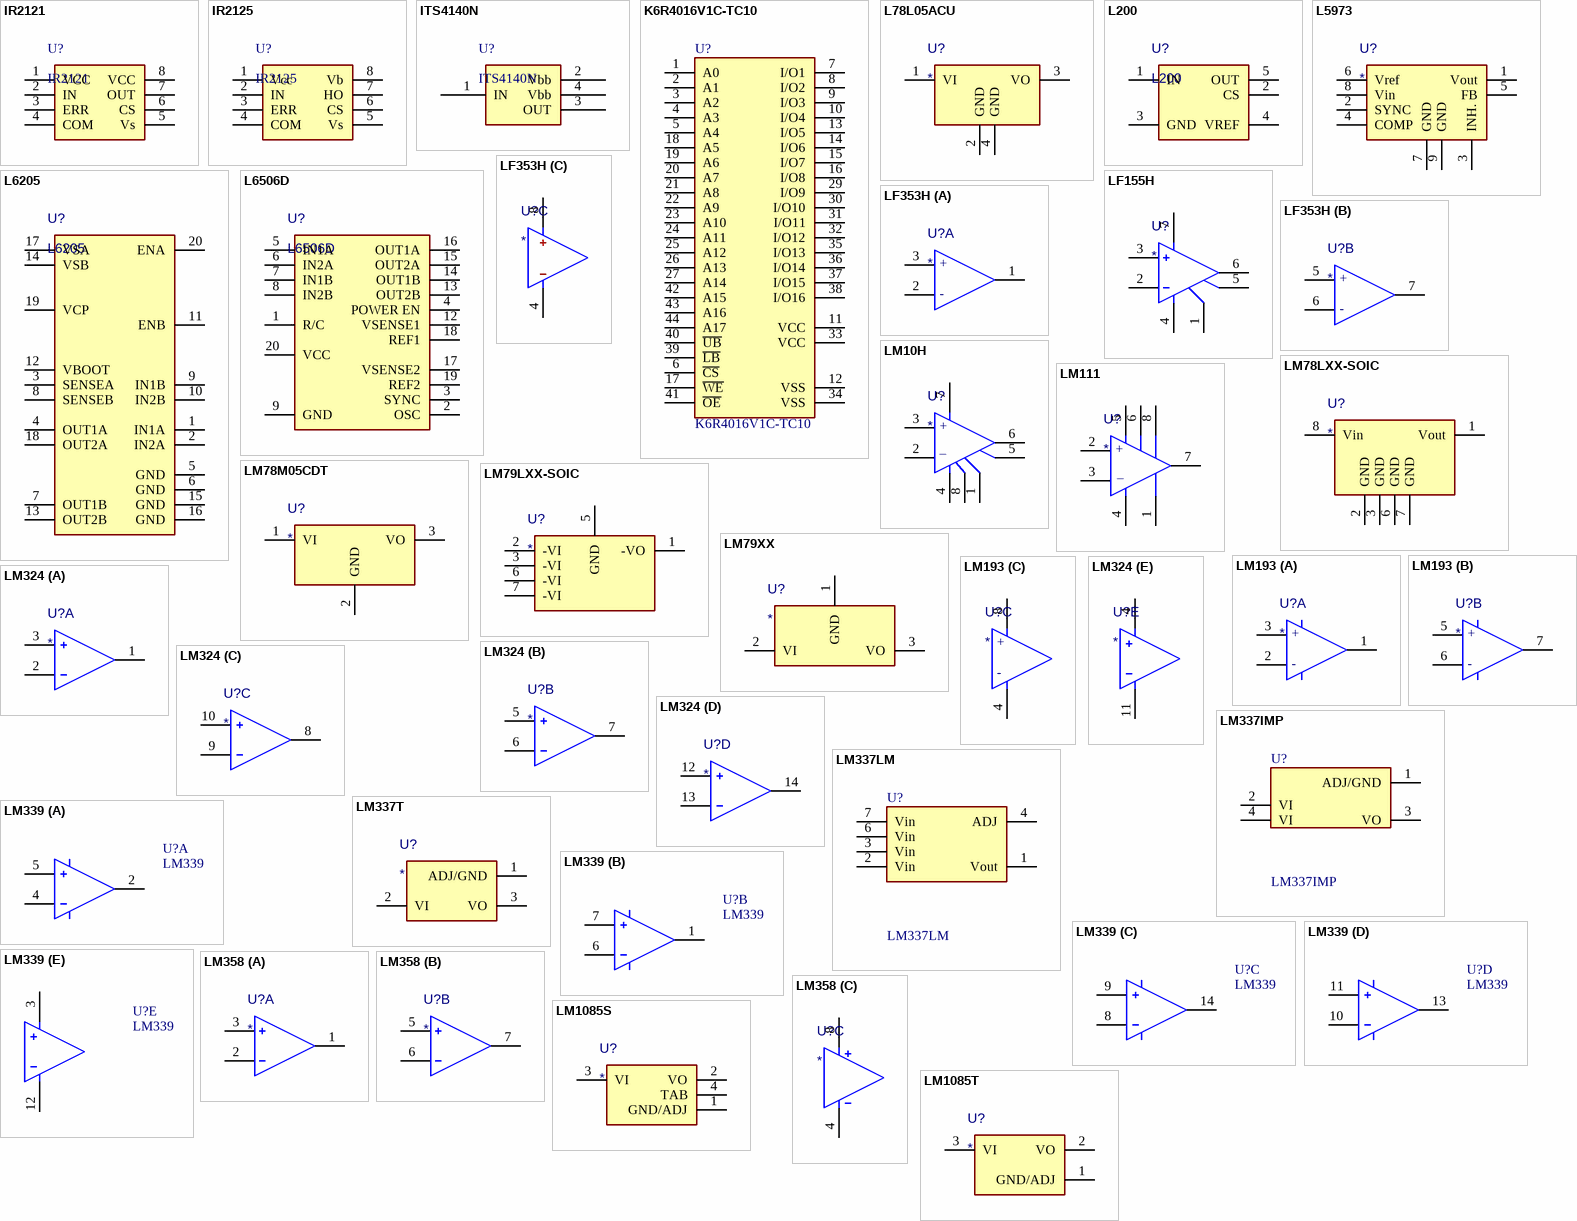
[diagram p6: symbols IR2121 to LM1085T]

## IR2121
designator U?
Value: IR2121
pins: 1 VCC, 2 IN, 3 ERR, 4 COM, 5 Vs, 6 CS, 7 OUT, 8 VCC

## IR2125
designator U?
Value: IR2125
footprint 8DIP300
pins: 1 Vcc, 2 IN, 3 ERR, 4 COM, 5 Vs, 6 CS, 7 HO, 8 Vb

## ITS4140N
designator U?
Supplier1: *; Supplier2: *; Supplier3: *; Mfr_Typ1: *; Mfr_Typ2: *; Mfr_Typ3: *; Price1: *; Price2: *; Price3: *; Reference1: *; Reference2: *; Reference3: *; Value: ITS4140N
footprint SOT-223
pins: 1 IN, 2 Vbb, 3 OUT, 4 Vbb

## K6R4016V1C-TC10
designator U?
Value: K6R4016V1C-TC10
pins: 1 A0, 2 A1, 3 A2, 4 A3, 5 A4, 6 ~{CS}, 7 I/O1, 8 I/O2, 9 I/O3, 10 I/O4, 11 VCC, 12 VSS, 13 I/O5, 14 I/O6, 15 I/O7, 16 I/O8, 17 ~{WE}, 18 A5, 19 A6, 20 A7, 21 A8, 22 A9, 23 A10, 24 A11, 25 A12, 26 A13, 27 A14, 29 I/O9, 30 I/O10, 31 I/O11, 32 I/O12, 33 VCC, 34 VSS, 35 I/O13, 36 I/O14, 37 I/O15, 38 I/O16, 39 ~{LB}, 40 ~{UB}, 41 ~{OE}, 42 A15, 43 A16, 44 A17

## L78L05ACU
designator U?
Value: *
pins: 1 VI, 2 GND, 3 VO, 4 GND

## L200
designator U?
Value: L200
pins: 1 IN, 2 CS, 3 GND, 4 VREF, 5 OUT

## L5973
designator U?
Value: *
pins: 1 Vout, 2 SYNC, 3 INH., 4 COMP, 5 FB, 6 Vref, 7 GND, 8 Vin, 9 GND

## L6205
designator U?
Value: L6205
pins: 1 IN1A, 2 IN2A, 3 SENSEA, 4 OUT1A, 5 GND, 6 GND, 7 OUT1B, 8 SENSEB, 9 IN1B, 10 IN2B, 11 ENB, 12 VBOOT, 13 OUT2B, 14 VSB, 15 GND, 16 GND, 17 VSA, 18 OUT2A, 19 VCP, 20 ENA

## L6506D
designator U?
Value: L6506D
pins: 1 R/C, 2 OSC, 3 SYNC, 4 POWER EN, 5 IN1A, 6 IN2A, 7 IN1B, 8 IN2B, 9 GND, 12 VSENSE1, 13 OUT2B, 14 OUT1B, 15 OUT2A, 16 OUT1A, 17 VSENSE2, 18 REF1, 19 REF2, 20 VCC

## LF155H
designator U?
Value: *
pins: 1 BALANCE 1, 2 MINUS INPUT, 3 PLUS INPUT, 4 MINUS V, 5 BALANCE 2, 6 OUTPUT, 7 PLUS V

## LF353H
designator U?
Value: *
part A pins: 1 OUTPUT, 2 MINUS INPUT, 3 PLUS INPUT
part B pins: 5 PLUS INPUT, 6 MINUS INPUT, 7 OUTPUT
part C pins: 4 MINUS V, 8 PLUS V
part A text: +; -
part B text: +; -

## LM10H
designator U?
Value: *
pins: 1 REFERENCE OUTPU, 2 MINUS INPUT, 3 PLUS INPUT, 4 MINUS V, 5 BALANCE 1, 6 OUTPUT, 7 PLUS V, 8 REFERENCE FEEDB
text: +; _

## LM78LXX-SOIC
designator U?
Value: *
pins: 1 Vout, 2 GND, 3 GND, 6 GND, 7 GND, 8 Vin

## LM78M05CDT
designator U?
Value: *
pins: 1 VI, 2 GND, 3 VO

## LM79LXX-SOIC
designator U?
Value: *
pins: 1 -VO, 2 -VI, 3 -VI, 5 GND, 6 -VI, 7 -VI

## LM79XX
designator U?
Value: *
pins: 1 GND, 2 VI, 3 VO

## LM111
designator U?
Value: *
pins: 1 GROUND, 2 IN+, 3 IN-, 4 V-, 5 BALANCE, 6 BAL/STRB, 7 OUTPUT, 8 V+
text: +; _

## LM193
designator U?
Value: *
part A pins: 1 OUT, 2 -IN, 3 +IN
part B pins: 5 +IN, 6 -IN, 7 OUT
part C pins: 4 V-, 8 V+
part A text: +; -
part B text: +; -
part C text: +; -

## LM324
designator U?
Value: *
part A pins: 1 OUTPUT, 2 MINUS INPUT, 3 PLUS INPUT
part B pins: 5 PLUS INPUT, 6 MINUS INPUT, 7 OUTPUT
part C pins: 8 OUTPUT, 9 MINUS INPUT, 10 PLUS INPUT
part D pins: 12 PLUS INPUT, 13 MINUS INPUT, 14 OUTPUT
part E pins: 4 PLUS V, 11 MINUS V

## LM337IMP
designator U?
Value: LM337IMP
pins: 1 ADJ/GND, 2 VI, 3 VO, 4 VI

## LM337LM
designator U?
3 terminal Voltage low power stabilizator; Value: LM337LM
pins: 1 Vout, 2 Vin, 3 Vin, 4 ADJ, 6 Vin, 7 Vin

## LM337T
designator U?
Value: *
pins: 1 ADJ/GND, 2 VI, 3 VO

## LM339
designator U?
Value: LM339
part A pins: 2 OUTPUT, 4 MINUS INPUT, 5 PLUS INPUT
part B pins: 1 OUTPUT, 6 MINUS INPUT, 7 PLUS INPUT
part C pins: 8 MINUS INPUT, 9 PLUS INPUT, 14 OUTPUT
part D pins: 10 MINUS INPUT, 11 PLUS INPUT, 13 OUTPUT
part E pins: 3 PLUS V, 12 MINUS V
1 alternate drawing of the same symbol

## LM358
designator U?
Value: *
part A pins: 1 OUTPUT, 2 MINUS INPUT, 3 PLUS INPUT
part B pins: 5 PLUS INPUT, 6 MINUS INPUT, 7 OUTPUT
part C pins: 4 MINUS V, 8 PLUS V

## LM1085S
designator U?
Value: *
pins: 1 GND/ADJ, 2 VO, 3 VI, 4 TAB

## LM1085T
designator U?
Value: *
pins: 1 GND/ADJ, 2 VO, 3 VI

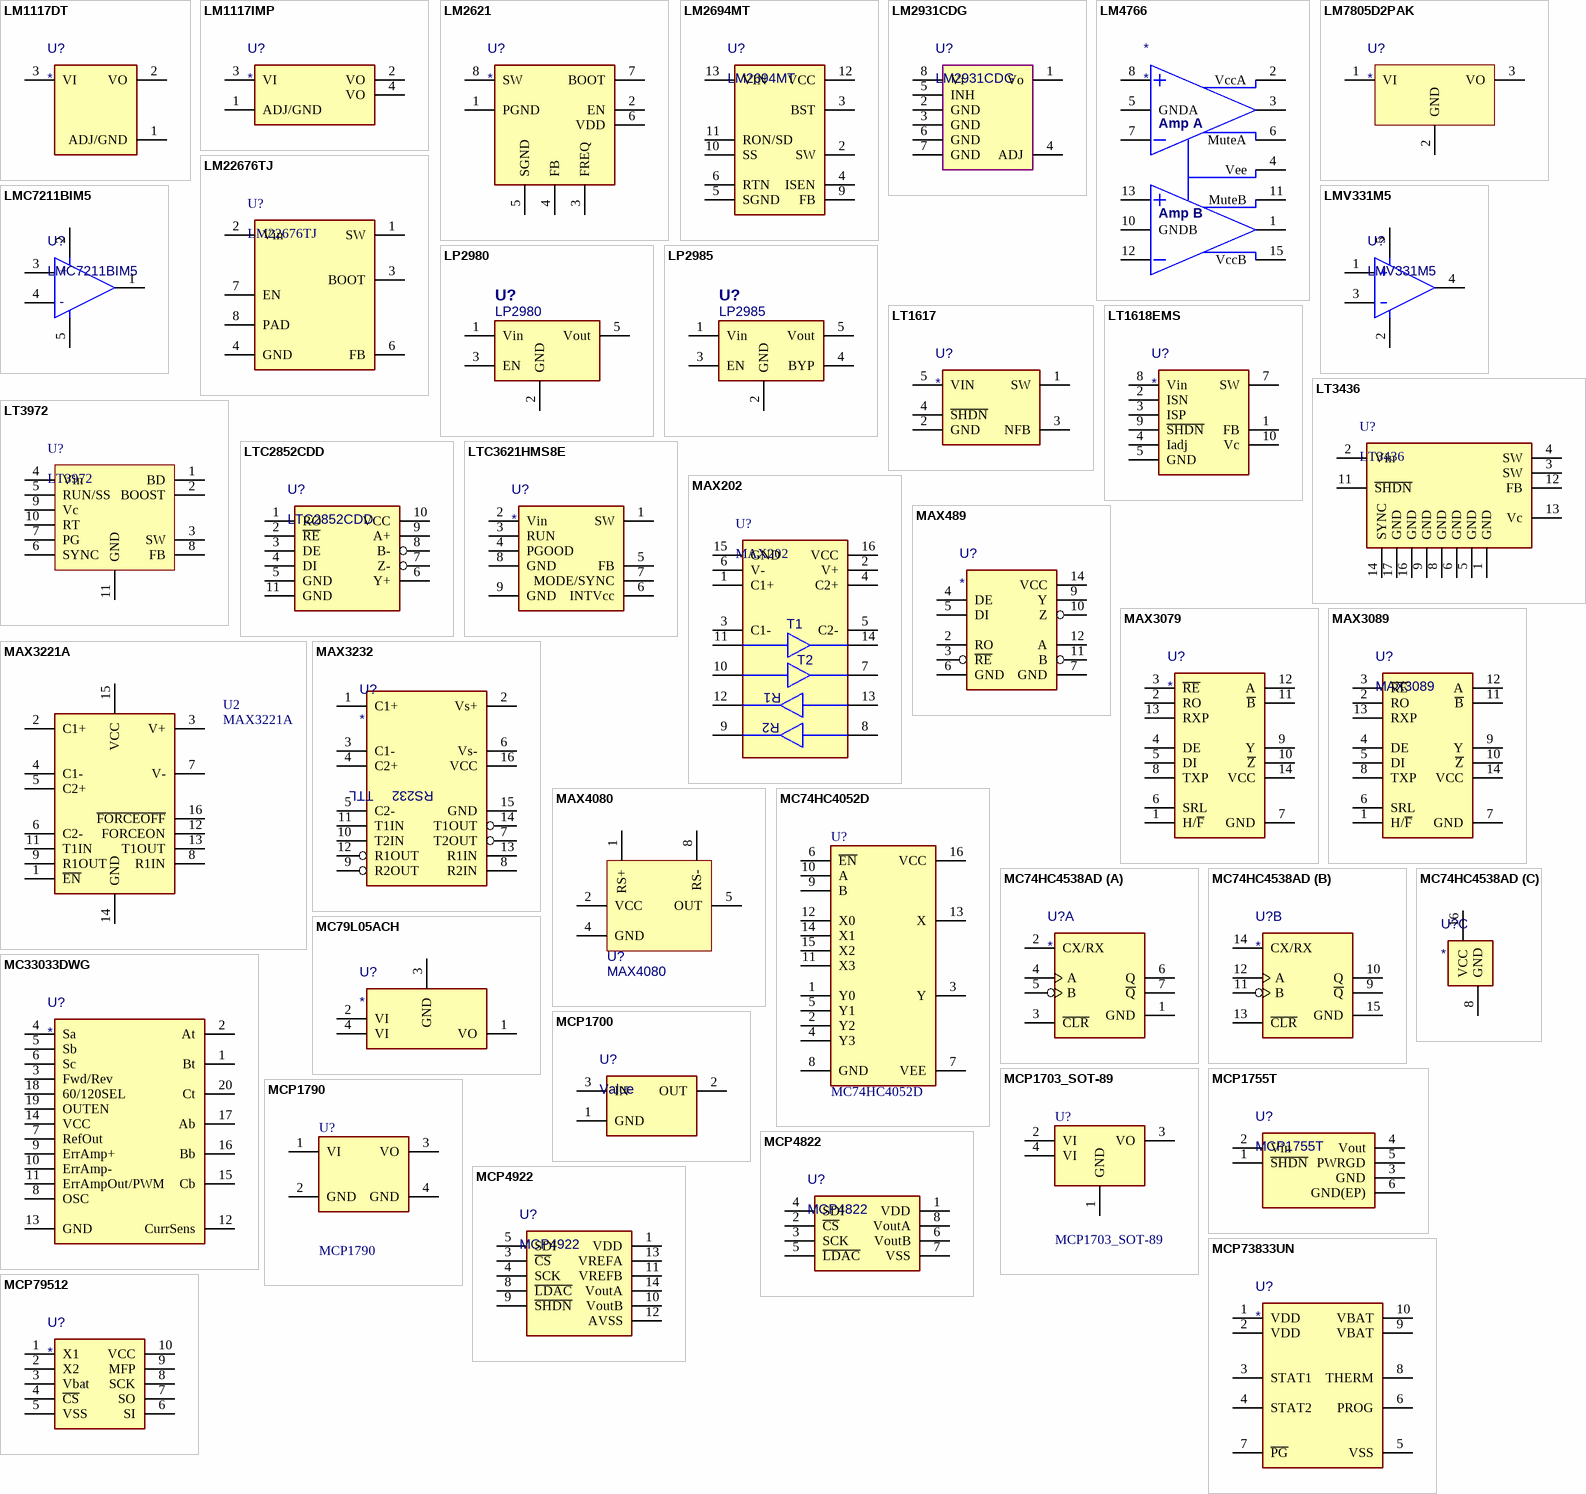
[diagram p7: symbols LM1117DT to MCP79512]

## LM1117DT
designator U?
Value: *
pins: 1 ADJ/GND, 2 VO, 3 VI

## LM1117IMP
designator U?
Value: *
pins: 1 ADJ/GND, 2 VO, 3 VI, 4 VO

## LM2621
designator U?
Value: *
pins: 1 PGND, 2 EN, 3 FREQ, 4 FB, 5 SGND, 6 VDD, 7 BOOT, 8 SW

## LM2694MT
designator U?
Value: LM2694MT
pins: 2 SW, 3 BST, 4 ISEN, 5 SGND, 6 RTN, 9 FB, 10 SS, 11 RON/SD, 12 VCC, 13 VIN

## LM2931CDG
designator U?
Value: LM2931CDG
pins: 1 Vo, 2 GND, 3 GND, 4 ADJ, 5 INH, 6 GND, 7 GND, 8 Vi

## LM4766
designator *
pins: 1 OutB, 2 VccA, 3 OutA, 4 Vee, 5 GNDA, 6 MuteA, 7 -InA, 8 +InA, 10 GNDB, 11 MuteB, 12 -InB, 13 +InB, 15 VccB
text: Amp A; Amp B

## LM7805D2PAK
designator U?
Value: *
pins: 1 VI, 2 GND, 3 VO

## LM22676TJ
designator U?
Value: LM22676TJ
pins: 1 SW, 2 Vin, 3 BOOT, 4 GND, 6 FB, 7 EN, 8 PAD

## LMC7211BIM5
designator U?
Value: LMC7211BIM5
pins: 1, 2, 3, 4, 5
text: +; -

## LMV331M5
designator U?
Value: LMV331M5
simulation model LMV331 (//////////////////////////////////////////////////////////////////////)
pins: 1 IN+, 2 V-, 3 IN-, 4 OUT, 5 V+

## LP2980
designator U?
Value: LP2980
pins: 1 Vin, 2 GND, 3 EN, 5 Vout

## LP2985
designator U?
Value: LP2985
pins: 1 Vin, 2 GND, 3 EN, 4 BYP, 5 Vout

## LT1617
designator U?
Value: *
pins: 1 SW, 2 GND, 3 NFB, 4 ~{SHDN}, 5 VIN

## LT1618EMS
designator U?
Value: *
pins: 1 FB, 2 ISN, 3 ISP, 4 Iadj, 5 GND, 7 SW, 8 Vin, 9 ~{SHDN}, 10 Vc

## LT3436
designator U?
Value: LT3436
pins: 1 GND, 2 Vin, 3 SW, 4 SW, 5 GND, 6 GND, 8 GND, 9 GND, 11 ~{SHDN}, 12 FB, 13 Vc, 14 SYNC, 16 GND, 17 GND

## LT3972
designator U?
Value: LT3972
pins: 1 BD, 2 BOOST, 3 SW, 4 Vin, 5 RUN/SS, 6 SYNC, 7 PG, 8 FB, 9 Vc, 10 RT, 11 GND

## LTC2852CDD
designator U?
Value: LTC2852CDD
pins: 1 RO, 2 ~{RE}, 3 DE, 4 DI, 5 GND, 6 Y+, 7 Z-, 8 B-, 9 A+, 10 VCC, 11 GND

## LTC3621HMS8E
designator U?
Value: *
pins: 1 SW, 2 Vin, 3 RUN, 4 PGOOD, 5 FB, 6 INTVcc, 7 MODE/SYNC, 8 GND, 9 GND

## MAX202
designator U?
Value: MAX202
footprint 16SOIC150
pins: 1 C1+, 2 V+, 3 C1-, 4 C2+, 5 C2-, 6 V-, 7, 8, 9, 10, 11, 12, 13, 14, 15 GND, 16 VCC
text: T1; T2; R1; R2

## MAX489
designator U?
Value: *
pins: 2 RO, 3 ~{RE}, 4 DE, 5 DI, 6 GND, 7 GND, 9 Y, 10 Z, 11 B, 12 A, 14 VCC

## MAX3079
designator U?
Value: *
pins: 1 H/~{F}, 2 RO, 3 ~{RE}, 4 DE, 5 DI, 6 SRL, 7 GND, 8 TXP, 9 Y, 10 ~{Z}, 11 ~{B}, 12 A, 13 RXP, 14 VCC

## MAX3089
designator U?
Value: MAX3089
pins: 1 H/~{F}, 2 RO, 3 ~{RE}, 4 DE, 5 DI, 6 SRL, 7 GND, 8 TXP, 9 Y, 10 ~{Z}, 11 ~{B}, 12 A, 13 RXP, 14 VCC

## MAX3221A
designator U2
Value: MAX3221A
pins: 1 ~{EN}, 2 C1+, 3 V+, 4 C1-, 5 C2+, 6 C2-, 7 V-, 8 R1IN, 9 R1OUT, 11 T1IN, 12 FORCEON, 13 T1OUT, 14 GND, 15 VCC, 16 ~{FORCEOFF}

## MAX3232
designator U?
Value: *
pins: 1 C1+, 2 Vs+, 3 C1-, 4 C2+, 5 C2-, 6 Vs-, 7 T2OUT, 8 R2IN, 9 R2OUT, 10 T2IN, 11 T1IN, 12 R1OUT, 13 R1IN, 14 T1OUT, 15 GND (power), 16 VCC (power)
text: TTL; RS232

## MAX4080
designator U?
Value: MAX4080
footprint 8SOIC150
pins: 1 RS+, 2 VCC, 4 GND, 5 OUT, 8 RS-

## MC74HC4052D
designator U?
Dual 4-Channel Analog Multiplexer/Demultiplexer; Value: MC74HC4052D
pins: 1 Y0, 2 Y2, 3 Y, 4 Y3, 5 Y1, 6 ~{EN}, 7 VEE, 8 GND, 9 B, 10 A, 11 X3, 12 X0, 13 X, 14 X1, 15 X2, 16 VCC

## MC74HC4538AD
designator U?
Value: *
part A pins: 1 GND, 2 CX/RX, 3 ~{CLR}, 4 A, 5 B, 6 Q, 7 ~{Q}
part B pins: 9 ~{Q}, 10 Q, 11 B, 12 A, 13 ~{CLR}, 14 CX/RX, 15 GND
part C pins: 8 GND, 16 VCC

## MC79L05ACH
designator U?
Value: *
pins: 1 VO, 2 VI, 3 GND, 4 VI

## MC33033DWG
designator U?
Value: MC33033DWG
pins: 1 Bt, 2 At, 3 Fwd/Rev, 4 Sa, 5 Sb, 6 Sc, 7 RefOut, 8 OSC, 9 ErrAmp+, 10 ErrAmp-, 11 ErrAmpOut/PWM, 12 CurrSens, 13 GND, 14 VCC, 15 Cb, 16 Bb, 17 Ab, 18 60/120SEL, 19 OUTEN, 20 Ct

## MCP1700
designator U?, comment Value
Value: Value
pins: 1 GND, 2 OUT, 3 IN

## MCP1703_SOT-89
designator U?
Value: MCP1703_SOT-89
pins: 1 GND, 2 VI, 3 VO, 4 VI

## MCP1755T
designator U?
Value: MCP1755T
pins: 1 ~{SHDN}, 2 Vin, 3 GND, 4 Vout, 5 PWRGD, 6 GND(EP)

## MCP1790
designator U?
Value: MCP1790
pins: 1 VI, 2 GND, 3 VO, 4 GND

## MCP4822
designator U?
Value: MCP4822
pins: 1 VDD, 2 ~{CS}, 3 SCK, 4 SDI, 5 ~{LDAC}, 6 VoutB, 7 VSS, 8 VoutA

## MCP4922
designator U?
Value: MCP4922
pins: 1 VDD, 3 ~{CS}, 4 SCK, 5 SDI, 8 ~{LDAC}, 9 ~{SHDN}, 10 VoutB, 11 VREFB, 12 AVSS, 13 VREFA, 14 VoutA

## MCP73833UN
designator U?
Value: *
pins: 1 VDD, 2 VDD, 3 STAT1, 4 STAT2, 5 VSS, 6 PROG, 7 ~{PG}, 8 THERM, 9 VBAT, 10 VBAT

## MCP79512
designator U?
Value: *
pins: 1 X1, 2 X2, 3 Vbat, 4 ~{CS}, 5 VSS, 6 SI, 7 SO, 8 SCK, 9 MFP, 10 VCC

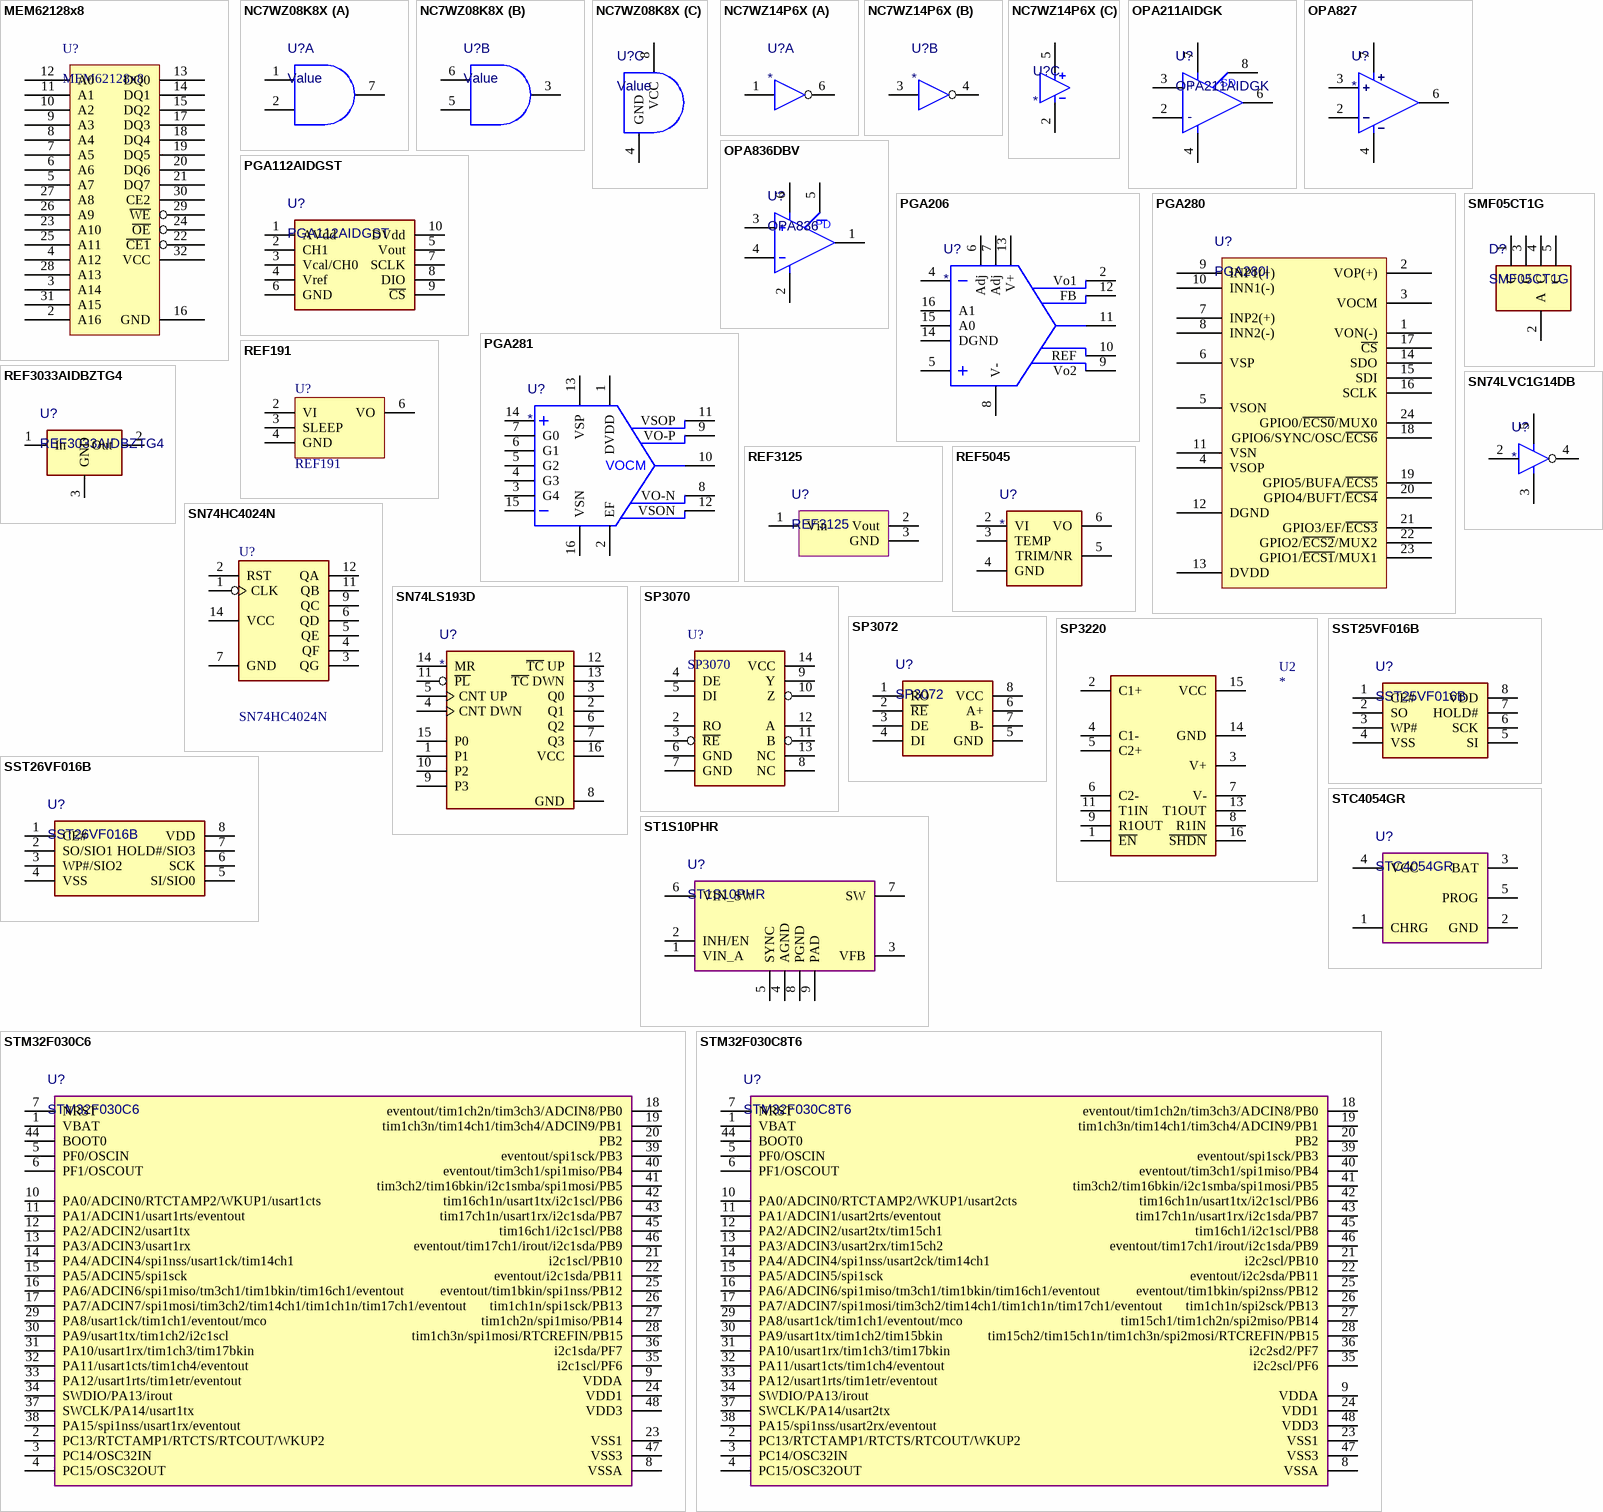
[diagram p8: symbols MEM62128x8 to STM32F030C8T6]

## MEM62128x8
designator U?
Value: MEM62128x8
pins: 2 A16, 3 A14, 4 A12, 5 A7, 6 A6, 7 A5, 8 A4, 9 A3, 10 A2, 11 A1, 12 A0, 13 DQ0, 14 DQ1, 15 DQ2, 16 GND, 17 DQ3, 18 DQ4, 19 DQ5, 20 DQ6, 21 DQ7, 22 ~{CE1}, 23 A10, 24 ~{OE}, 25 A11, 26 A9, 27 A8, 28 A13, 29 ~{WE}, 30 CE2, 31 A15, 32 VCC

## NC7WZ08K8X
designator U?, comment Value
Value: Value
part A pins: 1 I0, 2 I1, 7 O
part B pins: 3 O, 5 I1, 6 I0
part C pins: 4 GND, 8 VCC

## NC7WZ14P6X
designator U?
Value: *
part A pins: 1 I, 6 O
part B pins: 3 I, 4 O
part C pins: 2 GND, 5 VCC

## OPA211AIDGK
designator U?
Value: OPA211AIDGK
pins: 2 MINUS, 3 PLUS, 4 MINUS V, 6 OUTPUT, 7 PLUS V, 8 COMPENSATION 2
text: SD; +; -

## OPA827
designator U?
Value: *
pins: 2 MINUS INPUT, 3 PLUS INPUT, 4 MINUS V, 6 OUTPUT, 7 PLUS V

## OPA836DBV
designator U?, comment OPA836
Value: OPA836
pins: 1 OUTPUT, 2 MINUS V, 3 PLUS, 4 MINUS, 5 COMPENSATION 2, 6 PLUS V
text: PD

## PGA112AIDGST
designator U?
Value: PGA112AIDGST
pins: 1 AVdd, 2 CH1, 3 Vcal/CH0, 4 Vref, 5 Vout, 6 GND, 7 SCLK, 8 DIO, 9 ~{CS}, 10 DVdd

## PGA206
designator U?
Value: *
pins: 2 Vo1, 4 Vin-, 5 Vin+, 6 Adj, 7 Adj, 8 V-, 9 Vo2, 10 REF, 11 Vout, 12 FB, 13 V+, 14 DGND, 15 A0, 16 A1

## PGA280
designator U?, comment PGA280|
Value: PGA280|
pins: 1 VON(-), 2 VOP(+), 3 VOCM, 4 VSOP, 5 VSON, 6 VSP, 7 INP2(+), 8 INN2(-), 9 INP1(+), 10 INN1(-), 11 VSN, 12 DGND, 13 DVDD, 14 SDO, 15 SDI, 16 SCLK, 17 ~{CS}, 18 GPIO6/SYNC/OSC/~{ECS6}, 19 GPIO5/BUFA/~{ECS5}, 20 GPIO4/BUFT/~{ECS4}, 21 GPIO3/EF/~{ECS3}, 22 GPIO2/~{ECS2}/MUX2, 23 GPIO1/~{ECS1}/MUX1, 24 GPIO0/~{ECS0}/MUX0

## PGA281
designator U?
Value: *
pins: 1 DVDD, 2 EF, 3 G4, 4 G3, 5 G2, 6 G1, 7 G0, 8 VO-N, 9 VO-P, 10 VOCM, 11 VSOP, 12 VSON, 13 VSP, 14 Vin-, 15 Vin+, 16 VSN

## REF191
designator U?
Value: REF191
pins: 2 VI, 3 SLEEP, 4 GND, 6 VO

## REF3033AIDBZTG4
designator U?
Value: REF3033AIDBZTG4
pins: 1 In, 2 Out, 3 GND

## REF3125
designator U?
Value: REF3125
pins: 1 Vin, 2 Vout, 3 GND

## REF5045
designator U?
Value: *
pins: 2 VI, 3 TEMP, 4 GND, 5 TRIM/NR, 6 VO

## SMF05CT1G
designator D?
Value: SMF05CT1G
pins: 1 C, 2 A, 3 C, 4 C, 5 C

## SN74HC4024N
designator U?
Asynchronous 7-Bit Binary Counter; Value: SN74HC4024N
pins: 1 CLK, 2 RST, 3 QG, 4 QF, 5 QE, 6 QD, 7 GND, 9 QC, 11 QB, 12 QA, 14 VCC

## SN74LS193D
designator U?
Value: *
pins: 1 P1, 2 Q1, 3 Q0, 4 CNT DWN, 5 CNT UP, 6 Q2, 7 Q3, 8 GND, 9 P3, 10 P2, 11 ~{PL}, 12 ~{TC} UP, 13 ~{TC} DWN, 14 MR, 15 P0, 16 VCC

## SN74LVC1G14DB
designator U?
Value: *
pins: 2 I, 3 GND, 4 O, 5 VCC

## SP3070
designator U?
Value: SP3070
pins: 2 RO, 3 ~{RE}, 4 DE, 5 DI, 6 GND, 7 GND, 8 NC, 9 Y, 10 Z, 11 B, 12 A, 13 NC, 14 VCC

## SP3072
designator U?
Value: SP3072
pins: 1 RO, 2 ~{RE}, 3 DE, 4 DI, 5 GND, 6 A+, 7 B-, 8 VCC

## SP3220
designator U2
footprint 16SSOP300
pins: 1 ~{EN}, 2 C1+, 3 V+, 4 C1-, 5 C2+, 6 C2-, 7 V-, 8 R1IN, 9 R1OUT, 11 T1IN, 13 T1OUT, 14 GND, 15 VCC, 16 ~{SHDN}

## SST25VF016B
designator U?
Value: SST25VF016B
pins: 1 CE#, 2 SO, 3 WP#, 4 VSS, 5 SI, 6 SCK, 7 HOLD#, 8 VDD

## SST26VF016B
designator U?
Value: SST26VF016B
pins: 1 CE#, 2 SO/SIO1, 3 WP#/SIO2, 4 VSS, 5 SI/SIO0, 6 SCK, 7 HOLD#/SIO3, 8 VDD

## ST1S10PHR
designator U?
Value: ST1S10PHR
pins: 1 VIN_A, 2 INH/EN, 3 VFB, 4 AGND, 5 SYNC, 6 VIN_SW, 7 SW, 8 PGND, 9 PAD

## STC4054GR
designator U?
Value: STC4054GR
pins: 1 CHRG, 2 GND, 3 BAT, 4 VCC, 5 PROG

## STM32F030C6
designator U?
Value: STM32F030C6
pins: 1 VBAT, 2 PC13/RTCTAMP1/RTCTS/RTCOUT/WKUP2, 3 PC14/OSC32IN, 4 PC15/OSC32OUT, 5 PF0/OSCIN, 6 PF1/OSCOUT, 7 NRST, 8 VSSA, 9 VDDA, 10 PA0/ADCIN0/RTCTAMP2/WKUP1/usart1cts, 11 PA1/ADCIN1/usart1rts/eventout, 12 PA2/ADCIN2/usart1tx, 13 PA3/ADCIN3/usart1rx, 14 PA4/ADCIN4/spi1nss/usart1ck/tim14ch1, 15 PA5/ADCIN5/spi1sck, 16 PA6/ADCIN6/spi1miso/tm3ch1/tim1bkin/tim16ch1/eventout, 17 PA7/ADCIN7/spi1mosi/tim3ch2/tim14ch1/tim1ch1n/tim17ch1/eventout, 18 eventout/tim1ch2n/tim3ch3/ADCIN8/PB0, 19 tim1ch3n/tim14ch1/tim3ch4/ADCIN9/PB1, 20 PB2, 21 i2c1scl/PB10, 22 eventout/i2c1sda/PB11, 23 VSS1, 24 VDD1, 25 eventout/tim1bkin/spi1nss/PB12, 26 tim1ch1n/spi1sck/PB13, 27 tim1ch2n/spi1miso/PB14, 28 tim1ch3n/spi1mosi/RTCREFIN/PB15, 29 PA8/usart1ck/tim1ch1/eventout/mco, 30 PA9/usart1tx/tim1ch2/i2c1scl, 31 PA10/usart1rx/tim1ch3/tim17bkin, 32 PA11/usart1cts/tim1ch4/eventout, 33 PA12/usart1rts/tim1etr/eventout, 34 SWDIO/PA13/irout, 35 i2c1scl/PF6, 36 i2c1sda/PF7, 37 SWCLK/PA14/usart1tx, 38 PA15/spi1nss/usart1rx/eventout, 39 eventout/spi1sck/PB3, 40 eventout/tim3ch1/spi1miso/PB4, 41 tim3ch2/tim16bkin/i2c1smba/spi1mosi/PB5, 42 tim16ch1n/usart1tx/i2c1scl/PB6, 43 tim17ch1n/usart1rx/i2c1sda/PB7, 44 BOOT0, 45 tim16ch1/i2c1scl/PB8, 46 eventout/tim17ch1/irout/i2c1sda/PB9, 47 VSS3, 48 VDD3

## STM32F030C8T6
designator U?
Value: STM32F030C8T6
pins: 1 VBAT, 2 PC13/RTCTAMP1/RTCTS/RTCOUT/WKUP2, 3 PC14/OSC32IN, 4 PC15/OSC32OUT, 5 PF0/OSCIN, 6 PF1/OSCOUT, 7 NRST, 8 VSSA, 9 VDDA, 10 PA0/ADCIN0/RTCTAMP2/WKUP1/usart2cts, 11 PA1/ADCIN1/usart2rts/eventout, 12 PA2/ADCIN2/usart2tx/tim15ch1, 13 PA3/ADCIN3/usart2rx/tim15ch2, 14 PA4/ADCIN4/spi1nss/usart2ck/tim14ch1, 15 PA5/ADCIN5/spi1sck, 16 PA6/ADCIN6/spi1miso/tm3ch1/tim1bkin/tim16ch1/eventout, 17 PA7/ADCIN7/spi1mosi/tim3ch2/tim14ch1/tim1ch1n/tim17ch1/eventout, 18 eventout/tim1ch2n/tim3ch3/ADCIN8/PB0, 19 tim1ch3n/tim14ch1/tim3ch4/ADCIN9/PB1, 20 PB2, 21 i2c2scl/PB10, 22 eventout/i2c2sda/PB11, 23 VSS1, 24 VDD1, 25 eventout/tim1bkin/spi2nss/PB12, 26 tim1ch1n/spi2sck/PB13, 27 tim15ch1/tim1ch2n/spi2miso/PB14, 28 tim15ch2/tim15ch1n/tim1ch3n/spi2mosi/RTCREFIN/PB15, 29 PA8/usart1ck/tim1ch1/eventout/mco, 30 PA9/usart1tx/tim1ch2/tim15bkin, 31 PA10/usart1rx/tim1ch3/tim17bkin, 32 PA11/usart1cts/tim1ch4/eventout, 33 PA12/usart1rts/tim1etr/eventout, 34 SWDIO/PA13/irout, 35 i2c2scl/PF6, 36 i2c2sd2/PF7, 37 SWCLK/PA14/usart2tx, 38 PA15/spi1nss/usart2rx/eventout, 39 eventout/spi1sck/PB3, 40 eventout/tim3ch1/spi1miso/PB4, 41 tim3ch2/tim16bkin/i2c1smba/spi1mosi/PB5, 42 tim16ch1n/usart1tx/i2c1scl/PB6, 43 tim17ch1n/usart1rx/i2c1sda/PB7, 44 BOOT0, 45 tim16ch1/i2c1scl/PB8, 46 eventout/tim17ch1/irout/i2c1sda/PB9, 47 VSS3, 48 VDD3

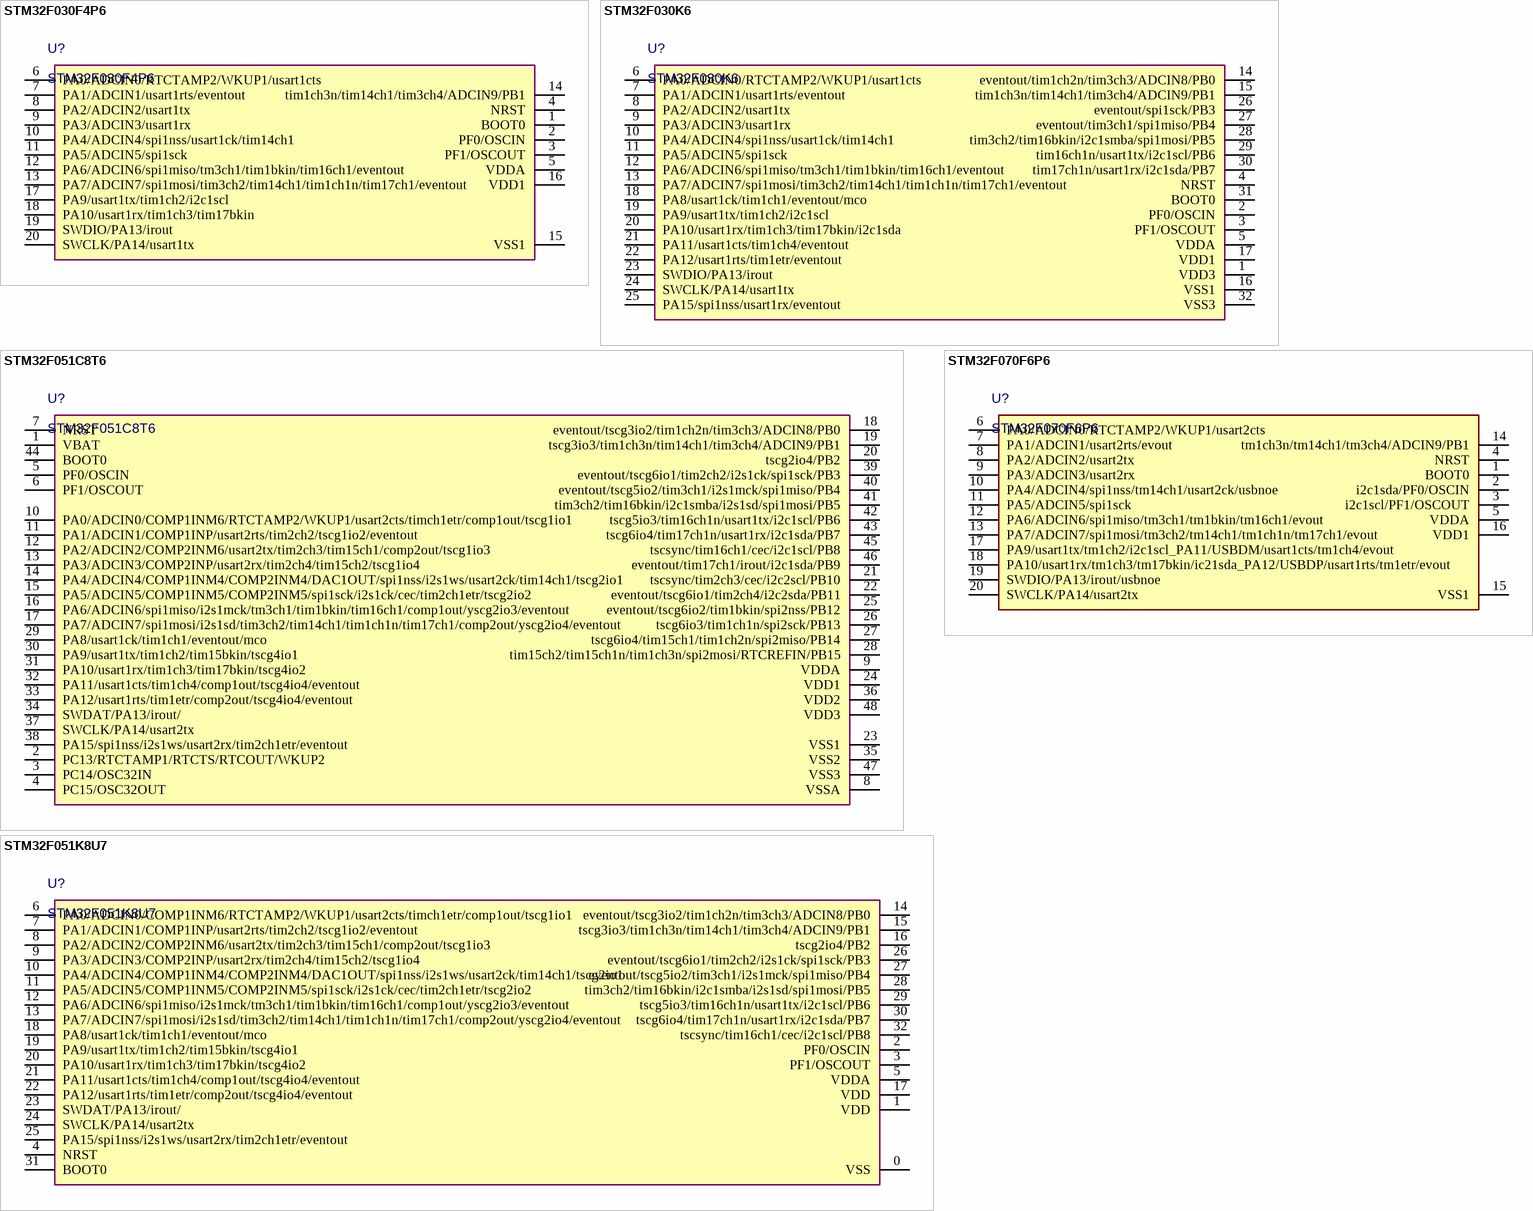
[diagram p9: symbols STM32F030F4P6 to STM32F070F6P6]

## STM32F030F4P6
designator U?
Value: STM32F030F4P6
pins: 1 BOOT0, 2 PF0/OSCIN, 3 PF1/OSCOUT, 4 NRST, 5 VDDA, 6 PA0/ADCIN0/RTCTAMP2/WKUP1/usart1cts, 7 PA1/ADCIN1/usart1rts/eventout, 8 PA2/ADCIN2/usart1tx, 9 PA3/ADCIN3/usart1rx, 10 PA4/ADCIN4/spi1nss/usart1ck/tim14ch1, 11 PA5/ADCIN5/spi1sck, 12 PA6/ADCIN6/spi1miso/tm3ch1/tim1bkin/tim16ch1/eventout, 13 PA7/ADCIN7/spi1mosi/tim3ch2/tim14ch1/tim1ch1n/tim17ch1/eventout, 14 tim1ch3n/tim14ch1/tim3ch4/ADCIN9/PB1, 15 VSS1, 16 VDD1, 17 PA9/usart1tx/tim1ch2/i2c1scl, 18 PA10/usart1rx/tim1ch3/tim17bkin, 19 SWDIO/PA13/irout, 20 SWCLK/PA14/usart1tx

## STM32F030K6
designator U?
Value: STM32F030K6
pins: 1 VDD3, 2 PF0/OSCIN, 3 PF1/OSCOUT, 4 NRST, 5 VDDA, 6 PA0/ADCIN0/RTCTAMP2/WKUP1/usart1cts, 7 PA1/ADCIN1/usart1rts/eventout, 8 PA2/ADCIN2/usart1tx, 9 PA3/ADCIN3/usart1rx, 10 PA4/ADCIN4/spi1nss/usart1ck/tim14ch1, 11 PA5/ADCIN5/spi1sck, 12 PA6/ADCIN6/spi1miso/tm3ch1/tim1bkin/tim16ch1/eventout, 13 PA7/ADCIN7/spi1mosi/tim3ch2/tim14ch1/tim1ch1n/tim17ch1/eventout, 14 eventout/tim1ch2n/tim3ch3/ADCIN8/PB0, 15 tim1ch3n/tim14ch1/tim3ch4/ADCIN9/PB1, 16 VSS1, 17 VDD1, 18 PA8/usart1ck/tim1ch1/eventout/mco, 19 PA9/usart1tx/tim1ch2/i2c1scl, 20 PA10/usart1rx/tim1ch3/tim17bkin/i2c1sda, 21 PA11/usart1cts/tim1ch4/eventout, 22 PA12/usart1rts/tim1etr/eventout, 23 SWDIO/PA13/irout, 24 SWCLK/PA14/usart1tx, 25 PA15/spi1nss/usart1rx/eventout, 26 eventout/spi1sck/PB3, 27 eventout/tim3ch1/spi1miso/PB4, 28 tim3ch2/tim16bkin/i2c1smba/spi1mosi/PB5, 29 tim16ch1n/usart1tx/i2c1scl/PB6, 30 tim17ch1n/usart1rx/i2c1sda/PB7, 31 BOOT0, 32 VSS3

## STM32F051C8T6
designator U?
Value: STM32F051C8T6
pins: 1 VBAT, 2 PC13/RTCTAMP1/RTCTS/RTCOUT/WKUP2, 3 PC14/OSC32IN, 4 PC15/OSC32OUT, 5 PF0/OSCIN, 6 PF1/OSCOUT, 7 NRST, 8 VSSA, 9 VDDA, 10 PA0/ADCIN0/COMP1INM6/RTCTAMP2/WKUP1/usart2cts/timch1etr/comp1out/tscg1io1, 11 PA1/ADCIN1/COMP1INP/usart2rts/tim2ch2/tscg1io2/eventout, 12 PA2/ADCIN2/COMP2INM6/usart2tx/tim2ch3/tim15ch1/comp2out/tscg1io3, 13 PA3/ADCIN3/COMP2INP/usart2rx/tim2ch4/tim15ch2/tscg1io4, 14 PA4/ADCIN4/COMP1INM4/COMP2INM4/DAC1OUT/spi1nss/i2s1ws/usart2ck/tim14ch1/tscg2io1, 15 PA5/ADCIN5/COMP1INM5/COMP2INM5/spi1sck/i2s1ck/cec/tim2ch1etr/tscg2io2, 16 PA6/ADCIN6/spi1miso/i2s1mck/tm3ch1/tim1bkin/tim16ch1/comp1out/yscg2io3/eventout, 17 PA7/ADCIN7/spi1mosi/i2s1sd/tim3ch2/tim14ch1/tim1ch1n/tim17ch1/comp2out/yscg2io4/eventout, 18 eventout/tscg3io2/tim1ch2n/tim3ch3/ADCIN8/PB0, 19 tscg3io3/tim1ch3n/tim14ch1/tim3ch4/ADCIN9/PB1, 20 tscg2io4/PB2, 21 tscsync/tim2ch3/cec/i2c2scl/PB10, 22 eventout/tscg6io1/tim2ch4/i2c2sda/PB11, 23 VSS1, 24 VDD1, 25 eventout/tscg6io2/tim1bkin/spi2nss/PB12, 26 tscg6io3/tim1ch1n/spi2sck/PB13, 27 tscg6io4/tim15ch1/tim1ch2n/spi2miso/PB14, 28 tim15ch2/tim15ch1n/tim1ch3n/spi2mosi/RTCREFIN/PB15, 29 PA8/usart1ck/tim1ch1/eventout/mco, 30 PA9/usart1tx/tim1ch2/tim15bkin/tscg4io1, 31 PA10/usart1rx/tim1ch3/tim17bkin/tscg4io2, 32 PA11/usart1cts/tim1ch4/comp1out/tscg4io4/eventout, 33 PA12/usart1rts/tim1etr/comp2out/tscg4io4/eventout, 34 SWDAT/PA13/irout/, 35 VSS2, 36 VDD2, 37 SWCLK/PA14/usart2tx, 38 PA15/spi1nss/i2s1ws/usart2rx/tim2ch1etr/eventout, 39 eventout/tscg6io1/tim2ch2/i2s1ck/spi1sck/PB3, 40 eventout/tscg5io2/tim3ch1/i2s1mck/spi1miso/PB4, 41 tim3ch2/tim16bkin/i2c1smba/i2s1sd/spi1mosi/PB5, 42 tscg5io3/tim16ch1n/usart1tx/i2c1scl/PB6, 43 tscg6io4/tim17ch1n/usart1rx/i2c1sda/PB7, 44 BOOT0, 45 tscsync/tim16ch1/cec/i2c1scl/PB8, 46 eventout/tim17ch1/irout/i2c1sda/PB9, 47 VSS3, 48 VDD3

## STM32F051K8U7
designator U?
Value: STM32F051K8U7
pins: 0 VSS, 1 VDD, 2 PF0/OSCIN, 3 PF1/OSCOUT, 4 NRST, 5 VDDA, 6 PA0/ADCIN0/COMP1INM6/RTCTAMP2/WKUP1/usart2cts/timch1etr/comp1out/tscg1io1, 7 PA1/ADCIN1/COMP1INP/usart2rts/tim2ch2/tscg1io2/eventout, 8 PA2/ADCIN2/COMP2INM6/usart2tx/tim2ch3/tim15ch1/comp2out/tscg1io3, 9 PA3/ADCIN3/COMP2INP/usart2rx/tim2ch4/tim15ch2/tscg1io4, 10 PA4/ADCIN4/COMP1INM4/COMP2INM4/DAC1OUT/spi1nss/i2s1ws/usart2ck/tim14ch1/tscg2io1, 11 PA5/ADCIN5/COMP1INM5/COMP2INM5/spi1sck/i2s1ck/cec/tim2ch1etr/tscg2io2, 12 PA6/ADCIN6/spi1miso/i2s1mck/tm3ch1/tim1bkin/tim16ch1/comp1out/yscg2io3/eventout, 13 PA7/ADCIN7/spi1mosi/i2s1sd/tim3ch2/tim14ch1/tim1ch1n/tim17ch1/comp2out/yscg2io4/eventout, 14 eventout/tscg3io2/tim1ch2n/tim3ch3/ADCIN8/PB0, 15 tscg3io3/tim1ch3n/tim14ch1/tim3ch4/ADCIN9/PB1, 16 tscg2io4/PB2, 17 VDD, 18 PA8/usart1ck/tim1ch1/eventout/mco, 19 PA9/usart1tx/tim1ch2/tim15bkin/tscg4io1, 20 PA10/usart1rx/tim1ch3/tim17bkin/tscg4io2, 21 PA11/usart1cts/tim1ch4/comp1out/tscg4io4/eventout, 22 PA12/usart1rts/tim1etr/comp2out/tscg4io4/eventout, 23 SWDAT/PA13/irout/, 24 SWCLK/PA14/usart2tx, 25 PA15/spi1nss/i2s1ws/usart2rx/tim2ch1etr/eventout, 26 eventout/tscg6io1/tim2ch2/i2s1ck/spi1sck/PB3, 27 eventout/tscg5io2/tim3ch1/i2s1mck/spi1miso/PB4, 28 tim3ch2/tim16bkin/i2c1smba/i2s1sd/spi1mosi/PB5, 29 tscg5io3/tim16ch1n/usart1tx/i2c1scl/PB6, 30 tscg6io4/tim17ch1n/usart1rx/i2c1sda/PB7, 31 BOOT0, 32 tscsync/tim16ch1/cec/i2c1scl/PB8